# Altium schematic symbol library SparkFun-Boards.SCHLIB: 91 symbols (part 2 of 3)
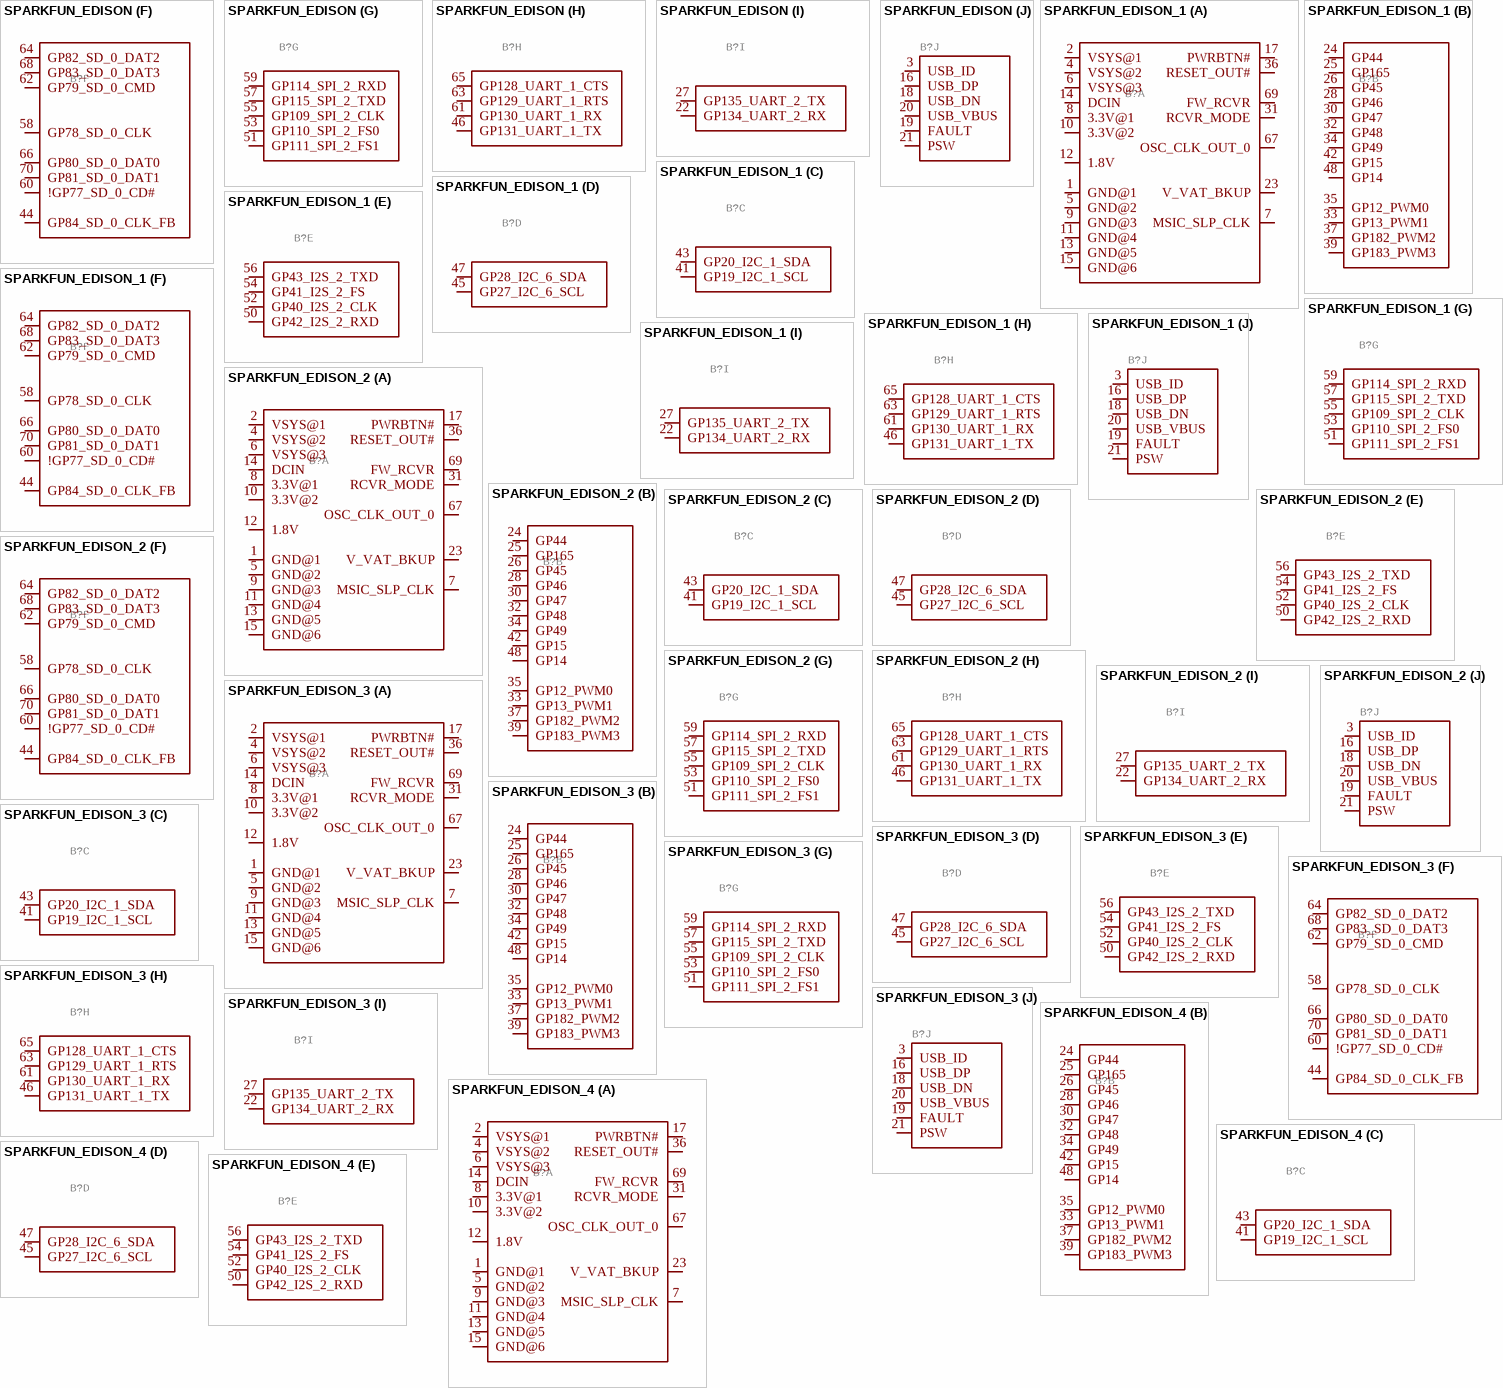
[diagram p13: symbols SPARKFUN_EDISON to SPARKFUN_EDISON_4]

## SPARKFUN_EDISON_1
designator B?, comment SparkFun Edison     The IntelÂ® Edison is an ultra small computing platform that will change the way you look at embedded electronics. Each Edison packs a huge amount of tech goodies into a tiny package while still providing the same robust strength of your go-to single board computer. Powered by the IntelÂ® Atomâ„¢ SoC dual-core CPU and including an integrated WiFi, Bluetooth LE, and a 70-pin connector to attach a veritable slew of shield-like â€œBlocksâ€ which can be stacked on top of each other.   This device includes footprints for the Edison module itself, as well as the basic board outline used for our Edison blocks.   SparkFun Products: Intel Edison  SparkFun Console Block  SparkFun GPIO Block  SparkFun Battery Block  SparkFun Base Block  SparkFun 9DOF Block  SparkFun OLED Block  SparkFun Dual H-Bridge Block  SparkFun microSD Block  SparkFun ADC Block  SparkFun I2C Block  SparkFun Arduino Block  SparkFun Power Block  SparkFun PWM Block  SparkFun Raspberry Pi Block  SparkFun UART Block  (value not drawn)
GateName_1: _BASIC; SymbolName_1: EDISON_CONNECTOR_BASE; GateName_2: _GPIO; SymbolName_2: EDISON_CONNECTOR_GPIO; GateName_3: _I2C_1; SymbolName_3: EDISON_CONNECTOR_I2C_1; GateName_4: _I2C_6; SymbolName_4: EDISON_CONNECTOR_I2C_6; GateName_5: _I2S; SymbolName_5: EDISON_CONNECTOR_I2S_2; GateName_6: _SD; SymbolName_6: EDISON_CONNECTOR_SD; GateName_7: _SPI; SymbolName_7: EDISON_CONNECTOR_SPI_2; GateName_8: _UART_1; SymbolName_8: EDISON_CONNECTOR_UART_1; GateName_9: _UART_2; SymbolName_9: EDISON_CONNECTOR_UART_2; GateName_10: _USB; SymbolName_10: EDISON_CONNECTOR_USB; DeviceSetName: SPARKFUN_EDISON; LibraryName: SparkFun-Boards; Package: SPARKFUN_EDISON_DAUGHTER
footprint SPARKFUN_EDISON_DAUGHTER
part A pins: 1 GND@1 (power), 2 VSYS@1 (power), 4 VSYS@2 (power), 5 GND@2 (power), 6 VSYS@3 (power), 7 MSIC_SLP_CLK (io), 8 3.3V@1 (power), 9 GND@3 (power), 10 3.3V@2 (power), 11 GND@4 (power), 12 1.8V (power), 13 GND@5 (power), 14 DCIN (power), 15 GND@6 (power), 17 PWRBTN# (io), 23 V_VAT_BKUP (power), 31 RCVR_MODE (io), 36 RESET_OUT# (io), 67 OSC_CLK_OUT_0 (io), 69 FW_RCVR (io)
part B pins: 24 GP44 (io), 25 GP165 (io), 26 GP45 (io), 28 GP46 (io), 30 GP47 (io), 32 GP48 (io), 33 GP13_PWM1 (io), 34 GP49 (io), 35 GP12_PWM0 (io), 37 GP182_PWM2 (io), 39 GP183_PWM3 (io), 42 GP15 (io), 48 GP14 (io)
part C pins: 41 GP19_I2C_1_SCL (io), 43 GP20_I2C_1_SDA (io)
part D pins: 45 GP27_I2C_6_SCL (io), 47 GP28_I2C_6_SDA (io)
part E pins: 50 GP42_I2S_2_RXD (io), 52 GP40_I2S_2_CLK (io), 54 GP41_I2S_2_FS (io), 56 GP43_I2S_2_TXD (io)
part F pins: 44 GP84_SD_0_CLK_FB (io), 58 GP78_SD_0_CLK (io), 60 !GP77_SD_0_CD# (io), 62 GP79_SD_0_CMD (io), 64 GP82_SD_0_DAT2 (io), 66 GP80_SD_0_DAT0 (io), 68 GP83_SD_0_DAT3 (io), 70 GP81_SD_0_DAT1 (io)
part G pins: 51 GP111_SPI_2_FS1 (io), 53 GP110_SPI_2_FS0 (io), 55 GP109_SPI_2_CLK (io), 57 GP115_SPI_2_TXD (io), 59 GP114_SPI_2_RXD (io)
part H pins: 46 GP131_UART_1_TX (io), 61 GP130_UART_1_RX (io), 63 GP129_UART_1_RTS (io), 65 GP128_UART_1_CTS (io)
part I pins: 22 GP134_UART_2_RX (io), 27 GP135_UART_2_TX (io)
part J pins: 3 USB_ID (io), 16 USB_DP (io), 18 USB_DN (io), 19 FAULT (io), 20 USB_VBUS (io), 21 PSW (io)

## SPARKFUN_EDISON_2
designator B?, comment SparkFun Edison     The IntelÂ® Edison is an ultra small computing platform that will change the way you look at embedded electronics. Each Edison packs a huge amount of tech goodies into a tiny package while still providing the same robust strength of your go-to single board computer. Powered by the IntelÂ® Atomâ„¢ SoC dual-core CPU and including an integrated WiFi, Bluetooth LE, and a 70-pin connector to attach a veritable slew of shield-like â€œBlocksâ€ which can be stacked on top of each other.   This device includes footprints for the Edison module itself, as well as the basic board outline used for our Edison blocks.   SparkFun Products: Intel Edison  SparkFun Console Block  SparkFun GPIO Block  SparkFun Battery Block  SparkFun Base Block  SparkFun 9DOF Block  SparkFun OLED Block  SparkFun Dual H-Bridge Block  SparkFun microSD Block  SparkFun ADC Block  SparkFun I2C Block  SparkFun Arduino Block  SparkFun Power Block  SparkFun PWM Block  SparkFun Raspberry Pi Block  SparkFun UART Block  (value not drawn)
GateName_1: _BASIC; SymbolName_1: EDISON_CONNECTOR_BASE; GateName_2: _GPIO; SymbolName_2: EDISON_CONNECTOR_GPIO; GateName_3: _I2C_1; SymbolName_3: EDISON_CONNECTOR_I2C_1; GateName_4: _I2C_6; SymbolName_4: EDISON_CONNECTOR_I2C_6; GateName_5: _I2S; SymbolName_5: EDISON_CONNECTOR_I2S_2; GateName_6: _SD; SymbolName_6: EDISON_CONNECTOR_SD; GateName_7: _SPI; SymbolName_7: EDISON_CONNECTOR_SPI_2; GateName_8: _UART_1; SymbolName_8: EDISON_CONNECTOR_UART_1; GateName_9: _UART_2; SymbolName_9: EDISON_CONNECTOR_UART_2; GateName_10: _USB; SymbolName_10: EDISON_CONNECTOR_USB; DeviceSetName: SPARKFUN_EDISON; LibraryName: SparkFun-Boards; Package: SPARKFUN_EDISON_DAUGHTER
footprint SPARKFUN_EDISON_DAUGHTER
part A pins: 1 GND@1 (power), 2 VSYS@1 (power), 4 VSYS@2 (power), 5 GND@2 (power), 6 VSYS@3 (power), 7 MSIC_SLP_CLK (io), 8 3.3V@1 (power), 9 GND@3 (power), 10 3.3V@2 (power), 11 GND@4 (power), 12 1.8V (power), 13 GND@5 (power), 14 DCIN (power), 15 GND@6 (power), 17 PWRBTN# (io), 23 V_VAT_BKUP (power), 31 RCVR_MODE (io), 36 RESET_OUT# (io), 67 OSC_CLK_OUT_0 (io), 69 FW_RCVR (io)
part B pins: 24 GP44 (io), 25 GP165 (io), 26 GP45 (io), 28 GP46 (io), 30 GP47 (io), 32 GP48 (io), 33 GP13_PWM1 (io), 34 GP49 (io), 35 GP12_PWM0 (io), 37 GP182_PWM2 (io), 39 GP183_PWM3 (io), 42 GP15 (io), 48 GP14 (io)
part C pins: 41 GP19_I2C_1_SCL (io), 43 GP20_I2C_1_SDA (io)
part D pins: 45 GP27_I2C_6_SCL (io), 47 GP28_I2C_6_SDA (io)
part E pins: 50 GP42_I2S_2_RXD (io), 52 GP40_I2S_2_CLK (io), 54 GP41_I2S_2_FS (io), 56 GP43_I2S_2_TXD (io)
part F pins: 44 GP84_SD_0_CLK_FB (io), 58 GP78_SD_0_CLK (io), 60 !GP77_SD_0_CD# (io), 62 GP79_SD_0_CMD (io), 64 GP82_SD_0_DAT2 (io), 66 GP80_SD_0_DAT0 (io), 68 GP83_SD_0_DAT3 (io), 70 GP81_SD_0_DAT1 (io)
part G pins: 51 GP111_SPI_2_FS1 (io), 53 GP110_SPI_2_FS0 (io), 55 GP109_SPI_2_CLK (io), 57 GP115_SPI_2_TXD (io), 59 GP114_SPI_2_RXD (io)
part H pins: 46 GP131_UART_1_TX (io), 61 GP130_UART_1_RX (io), 63 GP129_UART_1_RTS (io), 65 GP128_UART_1_CTS (io)
part I pins: 22 GP134_UART_2_RX (io), 27 GP135_UART_2_TX (io)
part J pins: 3 USB_ID (io), 16 USB_DP (io), 18 USB_DN (io), 19 FAULT (io), 20 USB_VBUS (io), 21 PSW (io)

## SPARKFUN_EDISON_3
designator B?, comment SparkFun Edison     The IntelÂ® Edison is an ultra small computing platform that will change the way you look at embedded electronics. Each Edison packs a huge amount of tech goodies into a tiny package while still providing the same robust strength of your go-to single board computer. Powered by the IntelÂ® Atomâ„¢ SoC dual-core CPU and including an integrated WiFi, Bluetooth LE, and a 70-pin connector to attach a veritable slew of shield-like â€œBlocksâ€ which can be stacked on top of each other.   This device includes footprints for the Edison module itself, as well as the basic board outline used for our Edison blocks.   SparkFun Products: Intel Edison  SparkFun Console Block  SparkFun GPIO Block  SparkFun Battery Block  SparkFun Base Block  SparkFun 9DOF Block  SparkFun OLED Block  SparkFun Dual H-Bridge Block  SparkFun microSD Block  SparkFun ADC Block  SparkFun I2C Block  SparkFun Arduino Block  SparkFun Power Block  SparkFun PWM Block  SparkFun Raspberry Pi Block  SparkFun UART Block  (value not drawn)
GateName_1: _BASIC; SymbolName_1: EDISON_CONNECTOR_BASE; GateName_2: _GPIO; SymbolName_2: EDISON_CONNECTOR_GPIO; GateName_3: _I2C_1; SymbolName_3: EDISON_CONNECTOR_I2C_1; GateName_4: _I2C_6; SymbolName_4: EDISON_CONNECTOR_I2C_6; GateName_5: _I2S; SymbolName_5: EDISON_CONNECTOR_I2S_2; GateName_6: _SD; SymbolName_6: EDISON_CONNECTOR_SD; GateName_7: _SPI; SymbolName_7: EDISON_CONNECTOR_SPI_2; GateName_8: _UART_1; SymbolName_8: EDISON_CONNECTOR_UART_1; GateName_9: _UART_2; SymbolName_9: EDISON_CONNECTOR_UART_2; GateName_10: _USB; SymbolName_10: EDISON_CONNECTOR_USB; DeviceSetName: SPARKFUN_EDISON; LibraryName: SparkFun-Boards; Package: SPARKFUN_EDISON_DAUGHTER
footprint SPARKFUN_EDISON_DAUGHTER
part A pins: 1 GND@1 (power), 2 VSYS@1 (power), 4 VSYS@2 (power), 5 GND@2 (power), 6 VSYS@3 (power), 7 MSIC_SLP_CLK (io), 8 3.3V@1 (power), 9 GND@3 (power), 10 3.3V@2 (power), 11 GND@4 (power), 12 1.8V (power), 13 GND@5 (power), 14 DCIN (power), 15 GND@6 (power), 17 PWRBTN# (io), 23 V_VAT_BKUP (power), 31 RCVR_MODE (io), 36 RESET_OUT# (io), 67 OSC_CLK_OUT_0 (io), 69 FW_RCVR (io)
part B pins: 24 GP44 (io), 25 GP165 (io), 26 GP45 (io), 28 GP46 (io), 30 GP47 (io), 32 GP48 (io), 33 GP13_PWM1 (io), 34 GP49 (io), 35 GP12_PWM0 (io), 37 GP182_PWM2 (io), 39 GP183_PWM3 (io), 42 GP15 (io), 48 GP14 (io)
part C pins: 41 GP19_I2C_1_SCL (io), 43 GP20_I2C_1_SDA (io)
part D pins: 45 GP27_I2C_6_SCL (io), 47 GP28_I2C_6_SDA (io)
part E pins: 50 GP42_I2S_2_RXD (io), 52 GP40_I2S_2_CLK (io), 54 GP41_I2S_2_FS (io), 56 GP43_I2S_2_TXD (io)
part F pins: 44 GP84_SD_0_CLK_FB (io), 58 GP78_SD_0_CLK (io), 60 !GP77_SD_0_CD# (io), 62 GP79_SD_0_CMD (io), 64 GP82_SD_0_DAT2 (io), 66 GP80_SD_0_DAT0 (io), 68 GP83_SD_0_DAT3 (io), 70 GP81_SD_0_DAT1 (io)
part G pins: 51 GP111_SPI_2_FS1 (io), 53 GP110_SPI_2_FS0 (io), 55 GP109_SPI_2_CLK (io), 57 GP115_SPI_2_TXD (io), 59 GP114_SPI_2_RXD (io)
part H pins: 46 GP131_UART_1_TX (io), 61 GP130_UART_1_RX (io), 63 GP129_UART_1_RTS (io), 65 GP128_UART_1_CTS (io)
part I pins: 22 GP134_UART_2_RX (io), 27 GP135_UART_2_TX (io)
part J pins: 3 USB_ID (io), 16 USB_DP (io), 18 USB_DN (io), 19 FAULT (io), 20 USB_VBUS (io), 21 PSW (io)

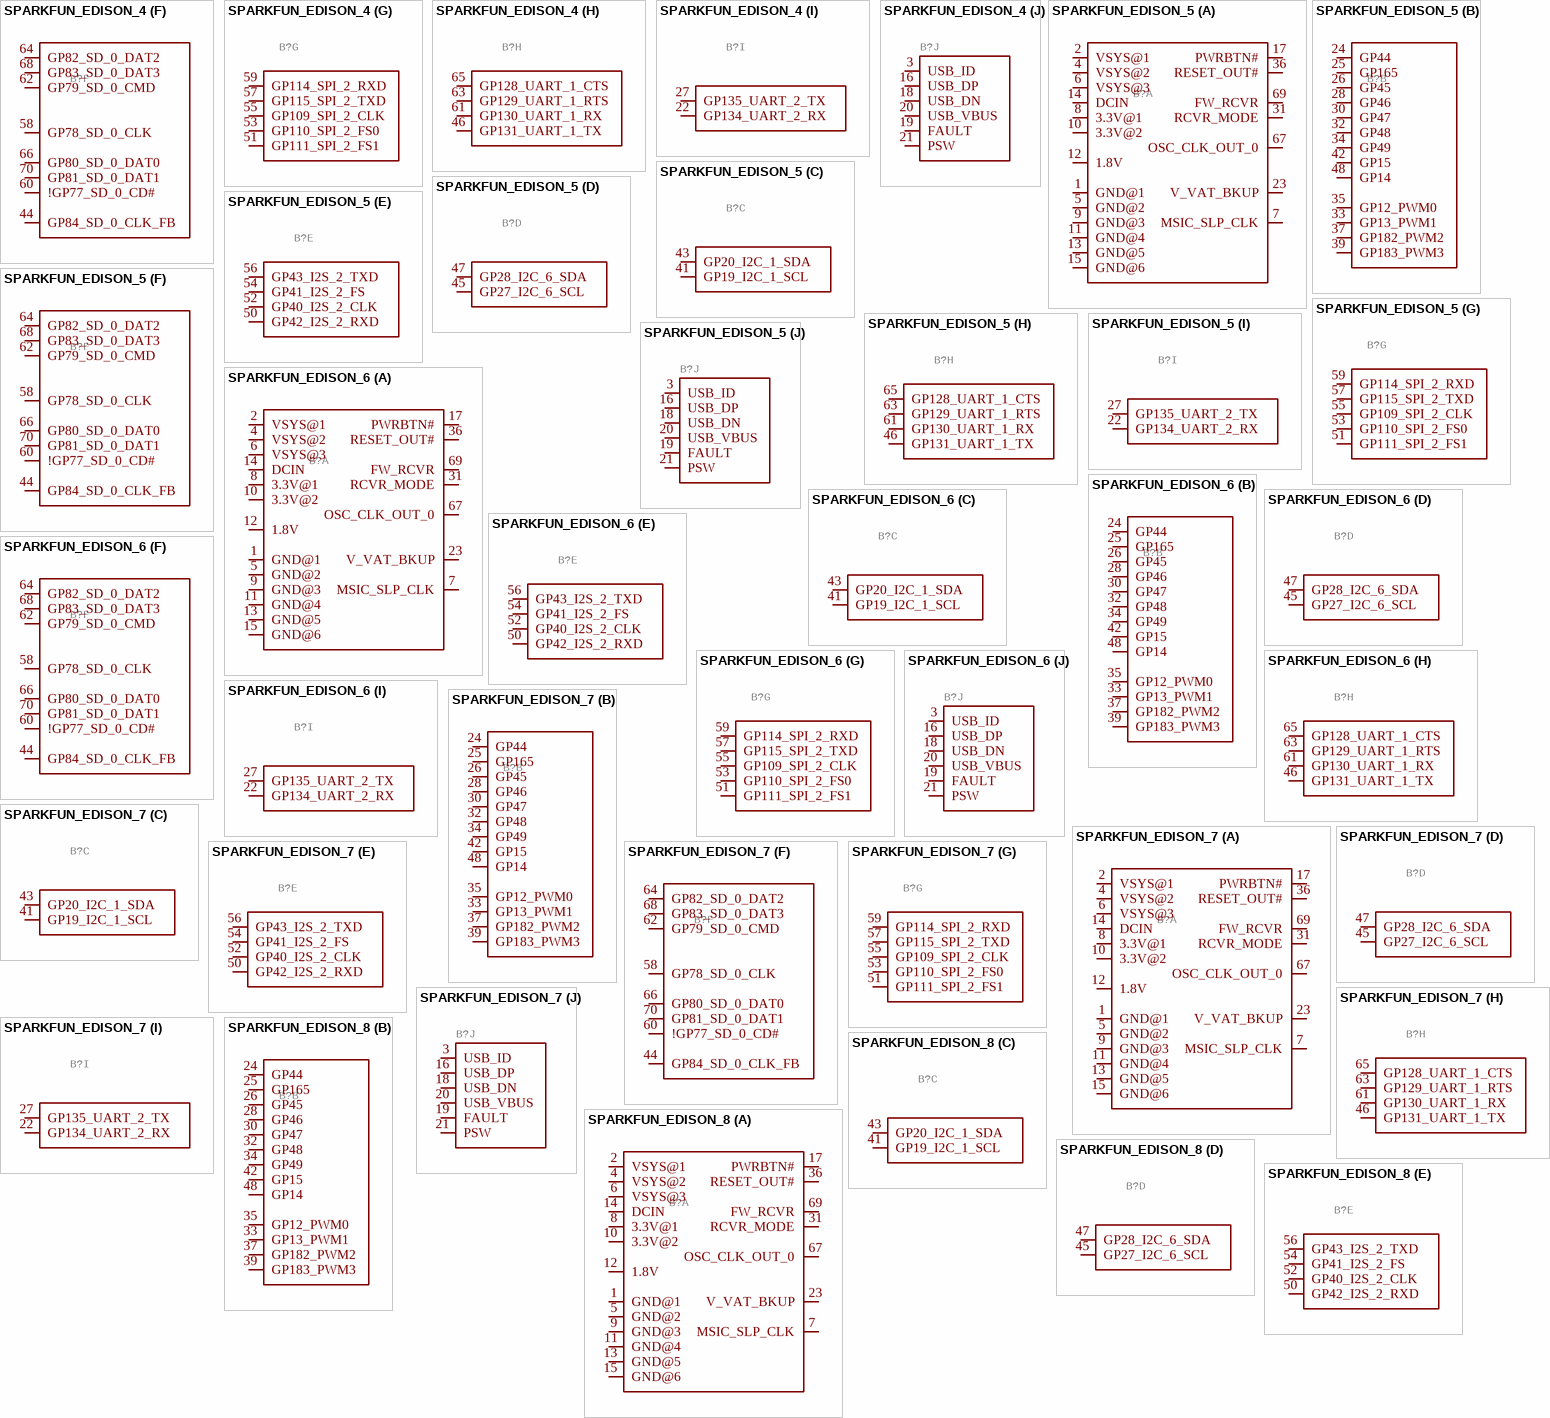
[diagram p7: symbols SPARKFUN_EDISON_4 to SPARKFUN_EDISON_8]

## SPARKFUN_EDISON_4
designator B?, comment SparkFun Edison     The IntelÂ® Edison is an ultra small computing platform that will change the way you look at embedded electronics. Each Edison packs a huge amount of tech goodies into a tiny package while still providing the same robust strength of your go-to single board computer. Powered by the IntelÂ® Atomâ„¢ SoC dual-core CPU and including an integrated WiFi, Bluetooth LE, and a 70-pin connector to attach a veritable slew of shield-like â€œBlocksâ€ which can be stacked on top of each other.   This device includes footprints for the Edison module itself, as well as the basic board outline used for our Edison blocks.   SparkFun Products: Intel Edison  SparkFun Console Block  SparkFun GPIO Block  SparkFun Battery Block  SparkFun Base Block  SparkFun 9DOF Block  SparkFun OLED Block  SparkFun Dual H-Bridge Block  SparkFun microSD Block  SparkFun ADC Block  SparkFun I2C Block  SparkFun Arduino Block  SparkFun Power Block  SparkFun PWM Block  SparkFun Raspberry Pi Block  SparkFun UART Block  (value not drawn)
GateName_1: _BASIC; SymbolName_1: EDISON_CONNECTOR_BASE; GateName_2: _GPIO; SymbolName_2: EDISON_CONNECTOR_GPIO; GateName_3: _I2C_1; SymbolName_3: EDISON_CONNECTOR_I2C_1; GateName_4: _I2C_6; SymbolName_4: EDISON_CONNECTOR_I2C_6; GateName_5: _I2S; SymbolName_5: EDISON_CONNECTOR_I2S_2; GateName_6: _SD; SymbolName_6: EDISON_CONNECTOR_SD; GateName_7: _SPI; SymbolName_7: EDISON_CONNECTOR_SPI_2; GateName_8: _UART_1; SymbolName_8: EDISON_CONNECTOR_UART_1; GateName_9: _UART_2; SymbolName_9: EDISON_CONNECTOR_UART_2; GateName_10: _USB; SymbolName_10: EDISON_CONNECTOR_USB; DeviceSetName: SPARKFUN_EDISON; LibraryName: SparkFun-Boards; Package: SPARKFUN_EDISON_DAUGHTER
footprint SPARKFUN_EDISON_DAUGHTER
part A pins: 1 GND@1 (power), 2 VSYS@1 (power), 4 VSYS@2 (power), 5 GND@2 (power), 6 VSYS@3 (power), 7 MSIC_SLP_CLK (io), 8 3.3V@1 (power), 9 GND@3 (power), 10 3.3V@2 (power), 11 GND@4 (power), 12 1.8V (power), 13 GND@5 (power), 14 DCIN (power), 15 GND@6 (power), 17 PWRBTN# (io), 23 V_VAT_BKUP (power), 31 RCVR_MODE (io), 36 RESET_OUT# (io), 67 OSC_CLK_OUT_0 (io), 69 FW_RCVR (io)
part B pins: 24 GP44 (io), 25 GP165 (io), 26 GP45 (io), 28 GP46 (io), 30 GP47 (io), 32 GP48 (io), 33 GP13_PWM1 (io), 34 GP49 (io), 35 GP12_PWM0 (io), 37 GP182_PWM2 (io), 39 GP183_PWM3 (io), 42 GP15 (io), 48 GP14 (io)
part C pins: 41 GP19_I2C_1_SCL (io), 43 GP20_I2C_1_SDA (io)
part D pins: 45 GP27_I2C_6_SCL (io), 47 GP28_I2C_6_SDA (io)
part E pins: 50 GP42_I2S_2_RXD (io), 52 GP40_I2S_2_CLK (io), 54 GP41_I2S_2_FS (io), 56 GP43_I2S_2_TXD (io)
part F pins: 44 GP84_SD_0_CLK_FB (io), 58 GP78_SD_0_CLK (io), 60 !GP77_SD_0_CD# (io), 62 GP79_SD_0_CMD (io), 64 GP82_SD_0_DAT2 (io), 66 GP80_SD_0_DAT0 (io), 68 GP83_SD_0_DAT3 (io), 70 GP81_SD_0_DAT1 (io)
part G pins: 51 GP111_SPI_2_FS1 (io), 53 GP110_SPI_2_FS0 (io), 55 GP109_SPI_2_CLK (io), 57 GP115_SPI_2_TXD (io), 59 GP114_SPI_2_RXD (io)
part H pins: 46 GP131_UART_1_TX (io), 61 GP130_UART_1_RX (io), 63 GP129_UART_1_RTS (io), 65 GP128_UART_1_CTS (io)
part I pins: 22 GP134_UART_2_RX (io), 27 GP135_UART_2_TX (io)
part J pins: 3 USB_ID (io), 16 USB_DP (io), 18 USB_DN (io), 19 FAULT (io), 20 USB_VBUS (io), 21 PSW (io)

## SPARKFUN_EDISON_5
designator B?, comment SparkFun Edison     The IntelÂ® Edison is an ultra small computing platform that will change the way you look at embedded electronics. Each Edison packs a huge amount of tech goodies into a tiny package while still providing the same robust strength of your go-to single board computer. Powered by the IntelÂ® Atomâ„¢ SoC dual-core CPU and including an integrated WiFi, Bluetooth LE, and a 70-pin connector to attach a veritable slew of shield-like â€œBlocksâ€ which can be stacked on top of each other.   This device includes footprints for the Edison module itself, as well as the basic board outline used for our Edison blocks.   SparkFun Products: Intel Edison  SparkFun Console Block  SparkFun GPIO Block  SparkFun Battery Block  SparkFun Base Block  SparkFun 9DOF Block  SparkFun OLED Block  SparkFun Dual H-Bridge Block  SparkFun microSD Block  SparkFun ADC Block  SparkFun I2C Block  SparkFun Arduino Block  SparkFun Power Block  SparkFun PWM Block  SparkFun Raspberry Pi Block  SparkFun UART Block  (value not drawn)
GateName_1: _BASIC; SymbolName_1: EDISON_CONNECTOR_BASE; GateName_2: _GPIO; SymbolName_2: EDISON_CONNECTOR_GPIO; GateName_3: _I2C_1; SymbolName_3: EDISON_CONNECTOR_I2C_1; GateName_4: _I2C_6; SymbolName_4: EDISON_CONNECTOR_I2C_6; GateName_5: _I2S; SymbolName_5: EDISON_CONNECTOR_I2S_2; GateName_6: _SD; SymbolName_6: EDISON_CONNECTOR_SD; GateName_7: _SPI; SymbolName_7: EDISON_CONNECTOR_SPI_2; GateName_8: _UART_1; SymbolName_8: EDISON_CONNECTOR_UART_1; GateName_9: _UART_2; SymbolName_9: EDISON_CONNECTOR_UART_2; GateName_10: _USB; SymbolName_10: EDISON_CONNECTOR_USB; DeviceSetName: SPARKFUN_EDISON; LibraryName: SparkFun-Boards; Package: SPARKFUN_EDISON_DAUGHTER
footprint SPARKFUN_EDISON_DAUGHTER
part A pins: 1 GND@1 (power), 2 VSYS@1 (power), 4 VSYS@2 (power), 5 GND@2 (power), 6 VSYS@3 (power), 7 MSIC_SLP_CLK (io), 8 3.3V@1 (power), 9 GND@3 (power), 10 3.3V@2 (power), 11 GND@4 (power), 12 1.8V (power), 13 GND@5 (power), 14 DCIN (power), 15 GND@6 (power), 17 PWRBTN# (io), 23 V_VAT_BKUP (power), 31 RCVR_MODE (io), 36 RESET_OUT# (io), 67 OSC_CLK_OUT_0 (io), 69 FW_RCVR (io)
part B pins: 24 GP44 (io), 25 GP165 (io), 26 GP45 (io), 28 GP46 (io), 30 GP47 (io), 32 GP48 (io), 33 GP13_PWM1 (io), 34 GP49 (io), 35 GP12_PWM0 (io), 37 GP182_PWM2 (io), 39 GP183_PWM3 (io), 42 GP15 (io), 48 GP14 (io)
part C pins: 41 GP19_I2C_1_SCL (io), 43 GP20_I2C_1_SDA (io)
part D pins: 45 GP27_I2C_6_SCL (io), 47 GP28_I2C_6_SDA (io)
part E pins: 50 GP42_I2S_2_RXD (io), 52 GP40_I2S_2_CLK (io), 54 GP41_I2S_2_FS (io), 56 GP43_I2S_2_TXD (io)
part F pins: 44 GP84_SD_0_CLK_FB (io), 58 GP78_SD_0_CLK (io), 60 !GP77_SD_0_CD# (io), 62 GP79_SD_0_CMD (io), 64 GP82_SD_0_DAT2 (io), 66 GP80_SD_0_DAT0 (io), 68 GP83_SD_0_DAT3 (io), 70 GP81_SD_0_DAT1 (io)
part G pins: 51 GP111_SPI_2_FS1 (io), 53 GP110_SPI_2_FS0 (io), 55 GP109_SPI_2_CLK (io), 57 GP115_SPI_2_TXD (io), 59 GP114_SPI_2_RXD (io)
part H pins: 46 GP131_UART_1_TX (io), 61 GP130_UART_1_RX (io), 63 GP129_UART_1_RTS (io), 65 GP128_UART_1_CTS (io)
part I pins: 22 GP134_UART_2_RX (io), 27 GP135_UART_2_TX (io)
part J pins: 3 USB_ID (io), 16 USB_DP (io), 18 USB_DN (io), 19 FAULT (io), 20 USB_VBUS (io), 21 PSW (io)

## SPARKFUN_EDISON_6
designator B?, comment SparkFun Edison     The IntelÂ® Edison is an ultra small computing platform that will change the way you look at embedded electronics. Each Edison packs a huge amount of tech goodies into a tiny package while still providing the same robust strength of your go-to single board computer. Powered by the IntelÂ® Atomâ„¢ SoC dual-core CPU and including an integrated WiFi, Bluetooth LE, and a 70-pin connector to attach a veritable slew of shield-like â€œBlocksâ€ which can be stacked on top of each other.   This device includes footprints for the Edison module itself, as well as the basic board outline used for our Edison blocks.   SparkFun Products: Intel Edison  SparkFun Console Block  SparkFun GPIO Block  SparkFun Battery Block  SparkFun Base Block  SparkFun 9DOF Block  SparkFun OLED Block  SparkFun Dual H-Bridge Block  SparkFun microSD Block  SparkFun ADC Block  SparkFun I2C Block  SparkFun Arduino Block  SparkFun Power Block  SparkFun PWM Block  SparkFun Raspberry Pi Block  SparkFun UART Block  (value not drawn)
GateName_1: _BASIC; SymbolName_1: EDISON_CONNECTOR_BASE; GateName_2: _GPIO; SymbolName_2: EDISON_CONNECTOR_GPIO; GateName_3: _I2C_1; SymbolName_3: EDISON_CONNECTOR_I2C_1; GateName_4: _I2C_6; SymbolName_4: EDISON_CONNECTOR_I2C_6; GateName_5: _I2S; SymbolName_5: EDISON_CONNECTOR_I2S_2; GateName_6: _SD; SymbolName_6: EDISON_CONNECTOR_SD; GateName_7: _SPI; SymbolName_7: EDISON_CONNECTOR_SPI_2; GateName_8: _UART_1; SymbolName_8: EDISON_CONNECTOR_UART_1; GateName_9: _UART_2; SymbolName_9: EDISON_CONNECTOR_UART_2; GateName_10: _USB; SymbolName_10: EDISON_CONNECTOR_USB; DeviceSetName: SPARKFUN_EDISON; LibraryName: SparkFun-Boards; Package: SPARKFUN_EDISON_DAUGHTER
footprint SPARKFUN_EDISON_DAUGHTER
part A pins: 1 GND@1 (power), 2 VSYS@1 (power), 4 VSYS@2 (power), 5 GND@2 (power), 6 VSYS@3 (power), 7 MSIC_SLP_CLK (io), 8 3.3V@1 (power), 9 GND@3 (power), 10 3.3V@2 (power), 11 GND@4 (power), 12 1.8V (power), 13 GND@5 (power), 14 DCIN (power), 15 GND@6 (power), 17 PWRBTN# (io), 23 V_VAT_BKUP (power), 31 RCVR_MODE (io), 36 RESET_OUT# (io), 67 OSC_CLK_OUT_0 (io), 69 FW_RCVR (io)
part B pins: 24 GP44 (io), 25 GP165 (io), 26 GP45 (io), 28 GP46 (io), 30 GP47 (io), 32 GP48 (io), 33 GP13_PWM1 (io), 34 GP49 (io), 35 GP12_PWM0 (io), 37 GP182_PWM2 (io), 39 GP183_PWM3 (io), 42 GP15 (io), 48 GP14 (io)
part C pins: 41 GP19_I2C_1_SCL (io), 43 GP20_I2C_1_SDA (io)
part D pins: 45 GP27_I2C_6_SCL (io), 47 GP28_I2C_6_SDA (io)
part E pins: 50 GP42_I2S_2_RXD (io), 52 GP40_I2S_2_CLK (io), 54 GP41_I2S_2_FS (io), 56 GP43_I2S_2_TXD (io)
part F pins: 44 GP84_SD_0_CLK_FB (io), 58 GP78_SD_0_CLK (io), 60 !GP77_SD_0_CD# (io), 62 GP79_SD_0_CMD (io), 64 GP82_SD_0_DAT2 (io), 66 GP80_SD_0_DAT0 (io), 68 GP83_SD_0_DAT3 (io), 70 GP81_SD_0_DAT1 (io)
part G pins: 51 GP111_SPI_2_FS1 (io), 53 GP110_SPI_2_FS0 (io), 55 GP109_SPI_2_CLK (io), 57 GP115_SPI_2_TXD (io), 59 GP114_SPI_2_RXD (io)
part H pins: 46 GP131_UART_1_TX (io), 61 GP130_UART_1_RX (io), 63 GP129_UART_1_RTS (io), 65 GP128_UART_1_CTS (io)
part I pins: 22 GP134_UART_2_RX (io), 27 GP135_UART_2_TX (io)
part J pins: 3 USB_ID (io), 16 USB_DP (io), 18 USB_DN (io), 19 FAULT (io), 20 USB_VBUS (io), 21 PSW (io)

## SPARKFUN_EDISON_7
designator B?, comment SparkFun Edison     The IntelÂ® Edison is an ultra small computing platform that will change the way you look at embedded electronics. Each Edison packs a huge amount of tech goodies into a tiny package while still providing the same robust strength of your go-to single board computer. Powered by the IntelÂ® Atomâ„¢ SoC dual-core CPU and including an integrated WiFi, Bluetooth LE, and a 70-pin connector to attach a veritable slew of shield-like â€œBlocksâ€ which can be stacked on top of each other.   This device includes footprints for the Edison module itself, as well as the basic board outline used for our Edison blocks.   SparkFun Products: Intel Edison  SparkFun Console Block  SparkFun GPIO Block  SparkFun Battery Block  SparkFun Base Block  SparkFun 9DOF Block  SparkFun OLED Block  SparkFun Dual H-Bridge Block  SparkFun microSD Block  SparkFun ADC Block  SparkFun I2C Block  SparkFun Arduino Block  SparkFun Power Block  SparkFun PWM Block  SparkFun Raspberry Pi Block  SparkFun UART Block  (value not drawn)
GateName_1: _BASIC; SymbolName_1: EDISON_CONNECTOR_BASE; GateName_2: _GPIO; SymbolName_2: EDISON_CONNECTOR_GPIO; GateName_3: _I2C_1; SymbolName_3: EDISON_CONNECTOR_I2C_1; GateName_4: _I2C_6; SymbolName_4: EDISON_CONNECTOR_I2C_6; GateName_5: _I2S; SymbolName_5: EDISON_CONNECTOR_I2S_2; GateName_6: _SD; SymbolName_6: EDISON_CONNECTOR_SD; GateName_7: _SPI; SymbolName_7: EDISON_CONNECTOR_SPI_2; GateName_8: _UART_1; SymbolName_8: EDISON_CONNECTOR_UART_1; GateName_9: _UART_2; SymbolName_9: EDISON_CONNECTOR_UART_2; GateName_10: _USB; SymbolName_10: EDISON_CONNECTOR_USB; DeviceSetName: SPARKFUN_EDISON; LibraryName: SparkFun-Boards; Package: SPARKFUN_EDISON_DAUGHTER
footprint SPARKFUN_EDISON_DAUGHTER
part A pins: 1 GND@1 (power), 2 VSYS@1 (power), 4 VSYS@2 (power), 5 GND@2 (power), 6 VSYS@3 (power), 7 MSIC_SLP_CLK (io), 8 3.3V@1 (power), 9 GND@3 (power), 10 3.3V@2 (power), 11 GND@4 (power), 12 1.8V (power), 13 GND@5 (power), 14 DCIN (power), 15 GND@6 (power), 17 PWRBTN# (io), 23 V_VAT_BKUP (power), 31 RCVR_MODE (io), 36 RESET_OUT# (io), 67 OSC_CLK_OUT_0 (io), 69 FW_RCVR (io)
part B pins: 24 GP44 (io), 25 GP165 (io), 26 GP45 (io), 28 GP46 (io), 30 GP47 (io), 32 GP48 (io), 33 GP13_PWM1 (io), 34 GP49 (io), 35 GP12_PWM0 (io), 37 GP182_PWM2 (io), 39 GP183_PWM3 (io), 42 GP15 (io), 48 GP14 (io)
part C pins: 41 GP19_I2C_1_SCL (io), 43 GP20_I2C_1_SDA (io)
part D pins: 45 GP27_I2C_6_SCL (io), 47 GP28_I2C_6_SDA (io)
part E pins: 50 GP42_I2S_2_RXD (io), 52 GP40_I2S_2_CLK (io), 54 GP41_I2S_2_FS (io), 56 GP43_I2S_2_TXD (io)
part F pins: 44 GP84_SD_0_CLK_FB (io), 58 GP78_SD_0_CLK (io), 60 !GP77_SD_0_CD# (io), 62 GP79_SD_0_CMD (io), 64 GP82_SD_0_DAT2 (io), 66 GP80_SD_0_DAT0 (io), 68 GP83_SD_0_DAT3 (io), 70 GP81_SD_0_DAT1 (io)
part G pins: 51 GP111_SPI_2_FS1 (io), 53 GP110_SPI_2_FS0 (io), 55 GP109_SPI_2_CLK (io), 57 GP115_SPI_2_TXD (io), 59 GP114_SPI_2_RXD (io)
part H pins: 46 GP131_UART_1_TX (io), 61 GP130_UART_1_RX (io), 63 GP129_UART_1_RTS (io), 65 GP128_UART_1_CTS (io)
part I pins: 22 GP134_UART_2_RX (io), 27 GP135_UART_2_TX (io)
part J pins: 3 USB_ID (io), 16 USB_DP (io), 18 USB_DN (io), 19 FAULT (io), 20 USB_VBUS (io), 21 PSW (io)

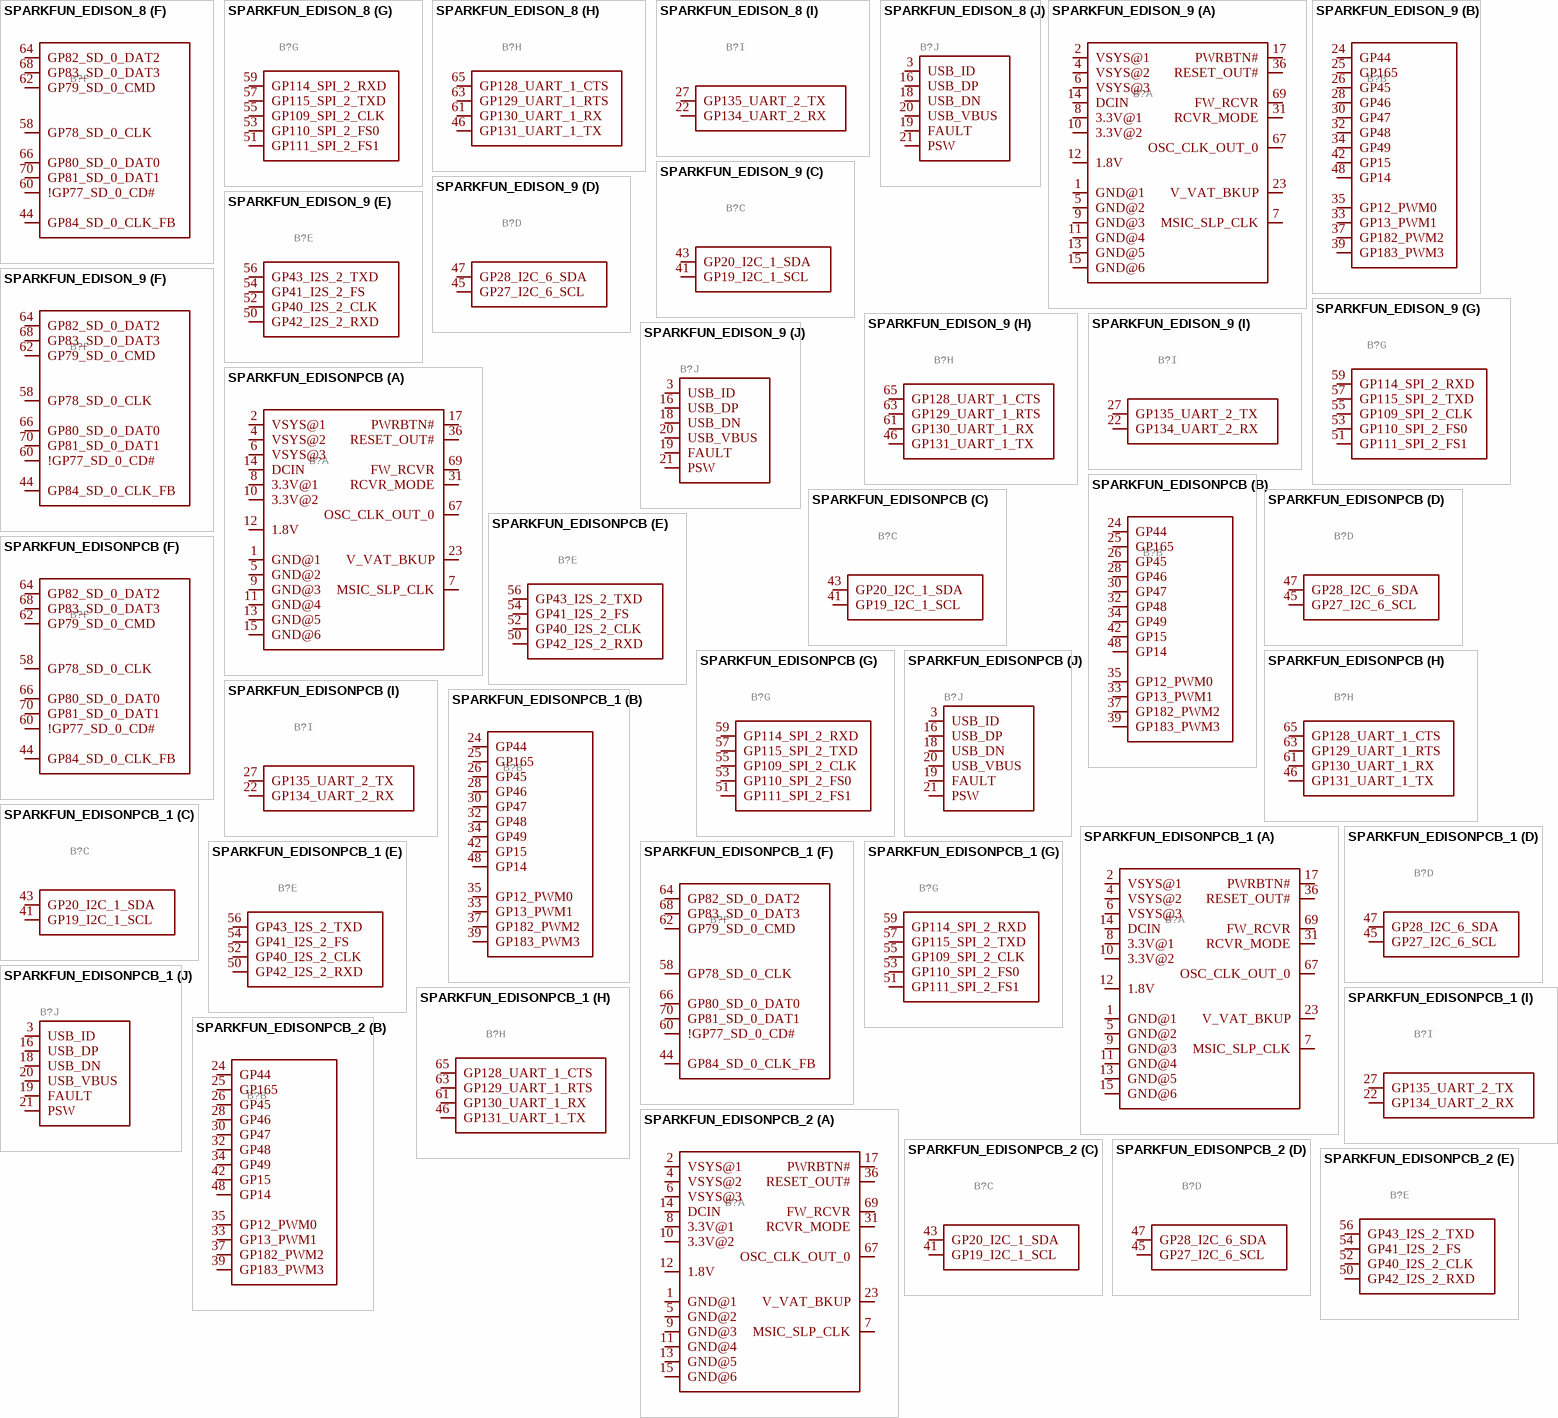
[diagram p8: symbols SPARKFUN_EDISON_8 to SPARKFUN_EDISONPCB_2]

## SPARKFUN_EDISON_8
designator B?, comment SparkFun Edison     The IntelÂ® Edison is an ultra small computing platform that will change the way you look at embedded electronics. Each Edison packs a huge amount of tech goodies into a tiny package while still providing the same robust strength of your go-to single board computer. Powered by the IntelÂ® Atomâ„¢ SoC dual-core CPU and including an integrated WiFi, Bluetooth LE, and a 70-pin connector to attach a veritable slew of shield-like â€œBlocksâ€ which can be stacked on top of each other.   This device includes footprints for the Edison module itself, as well as the basic board outline used for our Edison blocks.   SparkFun Products: Intel Edison  SparkFun Console Block  SparkFun GPIO Block  SparkFun Battery Block  SparkFun Base Block  SparkFun 9DOF Block  SparkFun OLED Block  SparkFun Dual H-Bridge Block  SparkFun microSD Block  SparkFun ADC Block  SparkFun I2C Block  SparkFun Arduino Block  SparkFun Power Block  SparkFun PWM Block  SparkFun Raspberry Pi Block  SparkFun UART Block  (value not drawn)
GateName_1: _BASIC; SymbolName_1: EDISON_CONNECTOR_BASE; GateName_2: _GPIO; SymbolName_2: EDISON_CONNECTOR_GPIO; GateName_3: _I2C_1; SymbolName_3: EDISON_CONNECTOR_I2C_1; GateName_4: _I2C_6; SymbolName_4: EDISON_CONNECTOR_I2C_6; GateName_5: _I2S; SymbolName_5: EDISON_CONNECTOR_I2S_2; GateName_6: _SD; SymbolName_6: EDISON_CONNECTOR_SD; GateName_7: _SPI; SymbolName_7: EDISON_CONNECTOR_SPI_2; GateName_8: _UART_1; SymbolName_8: EDISON_CONNECTOR_UART_1; GateName_9: _UART_2; SymbolName_9: EDISON_CONNECTOR_UART_2; GateName_10: _USB; SymbolName_10: EDISON_CONNECTOR_USB; DeviceSetName: SPARKFUN_EDISON; LibraryName: SparkFun-Boards; Package: SPARKFUN_EDISON_DAUGHTER
footprint SPARKFUN_EDISON_DAUGHTER
part A pins: 1 GND@1 (power), 2 VSYS@1 (power), 4 VSYS@2 (power), 5 GND@2 (power), 6 VSYS@3 (power), 7 MSIC_SLP_CLK (io), 8 3.3V@1 (power), 9 GND@3 (power), 10 3.3V@2 (power), 11 GND@4 (power), 12 1.8V (power), 13 GND@5 (power), 14 DCIN (power), 15 GND@6 (power), 17 PWRBTN# (io), 23 V_VAT_BKUP (power), 31 RCVR_MODE (io), 36 RESET_OUT# (io), 67 OSC_CLK_OUT_0 (io), 69 FW_RCVR (io)
part B pins: 24 GP44 (io), 25 GP165 (io), 26 GP45 (io), 28 GP46 (io), 30 GP47 (io), 32 GP48 (io), 33 GP13_PWM1 (io), 34 GP49 (io), 35 GP12_PWM0 (io), 37 GP182_PWM2 (io), 39 GP183_PWM3 (io), 42 GP15 (io), 48 GP14 (io)
part C pins: 41 GP19_I2C_1_SCL (io), 43 GP20_I2C_1_SDA (io)
part D pins: 45 GP27_I2C_6_SCL (io), 47 GP28_I2C_6_SDA (io)
part E pins: 50 GP42_I2S_2_RXD (io), 52 GP40_I2S_2_CLK (io), 54 GP41_I2S_2_FS (io), 56 GP43_I2S_2_TXD (io)
part F pins: 44 GP84_SD_0_CLK_FB (io), 58 GP78_SD_0_CLK (io), 60 !GP77_SD_0_CD# (io), 62 GP79_SD_0_CMD (io), 64 GP82_SD_0_DAT2 (io), 66 GP80_SD_0_DAT0 (io), 68 GP83_SD_0_DAT3 (io), 70 GP81_SD_0_DAT1 (io)
part G pins: 51 GP111_SPI_2_FS1 (io), 53 GP110_SPI_2_FS0 (io), 55 GP109_SPI_2_CLK (io), 57 GP115_SPI_2_TXD (io), 59 GP114_SPI_2_RXD (io)
part H pins: 46 GP131_UART_1_TX (io), 61 GP130_UART_1_RX (io), 63 GP129_UART_1_RTS (io), 65 GP128_UART_1_CTS (io)
part I pins: 22 GP134_UART_2_RX (io), 27 GP135_UART_2_TX (io)
part J pins: 3 USB_ID (io), 16 USB_DP (io), 18 USB_DN (io), 19 FAULT (io), 20 USB_VBUS (io), 21 PSW (io)

## SPARKFUN_EDISON_9
designator B?, comment SparkFun Edison     The IntelÂ® Edison is an ultra small computing platform that will change the way you look at embedded electronics. Each Edison packs a huge amount of tech goodies into a tiny package while still providing the same robust strength of your go-to single board computer. Powered by the IntelÂ® Atomâ„¢ SoC dual-core CPU and including an integrated WiFi, Bluetooth LE, and a 70-pin connector to attach a veritable slew of shield-like â€œBlocksâ€ which can be stacked on top of each other.   This device includes footprints for the Edison module itself, as well as the basic board outline used for our Edison blocks.   SparkFun Products: Intel Edison  SparkFun Console Block  SparkFun GPIO Block  SparkFun Battery Block  SparkFun Base Block  SparkFun 9DOF Block  SparkFun OLED Block  SparkFun Dual H-Bridge Block  SparkFun microSD Block  SparkFun ADC Block  SparkFun I2C Block  SparkFun Arduino Block  SparkFun Power Block  SparkFun PWM Block  SparkFun Raspberry Pi Block  SparkFun UART Block  (value not drawn)
GateName_1: _BASIC; SymbolName_1: EDISON_CONNECTOR_BASE; GateName_2: _GPIO; SymbolName_2: EDISON_CONNECTOR_GPIO; GateName_3: _I2C_1; SymbolName_3: EDISON_CONNECTOR_I2C_1; GateName_4: _I2C_6; SymbolName_4: EDISON_CONNECTOR_I2C_6; GateName_5: _I2S; SymbolName_5: EDISON_CONNECTOR_I2S_2; GateName_6: _SD; SymbolName_6: EDISON_CONNECTOR_SD; GateName_7: _SPI; SymbolName_7: EDISON_CONNECTOR_SPI_2; GateName_8: _UART_1; SymbolName_8: EDISON_CONNECTOR_UART_1; GateName_9: _UART_2; SymbolName_9: EDISON_CONNECTOR_UART_2; GateName_10: _USB; SymbolName_10: EDISON_CONNECTOR_USB; DeviceSetName: SPARKFUN_EDISON; LibraryName: SparkFun-Boards; Package: SPARKFUN_EDISON_DAUGHTER
footprint SPARKFUN_EDISON_DAUGHTER
part A pins: 1 GND@1 (power), 2 VSYS@1 (power), 4 VSYS@2 (power), 5 GND@2 (power), 6 VSYS@3 (power), 7 MSIC_SLP_CLK (io), 8 3.3V@1 (power), 9 GND@3 (power), 10 3.3V@2 (power), 11 GND@4 (power), 12 1.8V (power), 13 GND@5 (power), 14 DCIN (power), 15 GND@6 (power), 17 PWRBTN# (io), 23 V_VAT_BKUP (power), 31 RCVR_MODE (io), 36 RESET_OUT# (io), 67 OSC_CLK_OUT_0 (io), 69 FW_RCVR (io)
part B pins: 24 GP44 (io), 25 GP165 (io), 26 GP45 (io), 28 GP46 (io), 30 GP47 (io), 32 GP48 (io), 33 GP13_PWM1 (io), 34 GP49 (io), 35 GP12_PWM0 (io), 37 GP182_PWM2 (io), 39 GP183_PWM3 (io), 42 GP15 (io), 48 GP14 (io)
part C pins: 41 GP19_I2C_1_SCL (io), 43 GP20_I2C_1_SDA (io)
part D pins: 45 GP27_I2C_6_SCL (io), 47 GP28_I2C_6_SDA (io)
part E pins: 50 GP42_I2S_2_RXD (io), 52 GP40_I2S_2_CLK (io), 54 GP41_I2S_2_FS (io), 56 GP43_I2S_2_TXD (io)
part F pins: 44 GP84_SD_0_CLK_FB (io), 58 GP78_SD_0_CLK (io), 60 !GP77_SD_0_CD# (io), 62 GP79_SD_0_CMD (io), 64 GP82_SD_0_DAT2 (io), 66 GP80_SD_0_DAT0 (io), 68 GP83_SD_0_DAT3 (io), 70 GP81_SD_0_DAT1 (io)
part G pins: 51 GP111_SPI_2_FS1 (io), 53 GP110_SPI_2_FS0 (io), 55 GP109_SPI_2_CLK (io), 57 GP115_SPI_2_TXD (io), 59 GP114_SPI_2_RXD (io)
part H pins: 46 GP131_UART_1_TX (io), 61 GP130_UART_1_RX (io), 63 GP129_UART_1_RTS (io), 65 GP128_UART_1_CTS (io)
part I pins: 22 GP134_UART_2_RX (io), 27 GP135_UART_2_TX (io)
part J pins: 3 USB_ID (io), 16 USB_DP (io), 18 USB_DN (io), 19 FAULT (io), 20 USB_VBUS (io), 21 PSW (io)

## SPARKFUN_EDISONPCB
designator B?, comment SparkFun Edison     The IntelÂ® Edison is an ultra small computing platform that will change the way you look at embedded electronics. Each Edison packs a huge amount of tech goodies into a tiny package while still providing the same robust strength of your go-to single board computer. Powered by the IntelÂ® Atomâ„¢ SoC dual-core CPU and including an integrated WiFi, Bluetooth LE, and a 70-pin connector to attach a veritable slew of shield-like â€œBlocksâ€ which can be stacked on top of each other.   This device includes footprints for the Edison module itself, as well as the basic board outline used for our Edison blocks.   SparkFun Products: Intel Edison  SparkFun Console Block  SparkFun GPIO Block  SparkFun Battery Block  SparkFun Base Block  SparkFun 9DOF Block  SparkFun OLED Block  SparkFun Dual H-Bridge Block  SparkFun microSD Block  SparkFun ADC Block  SparkFun I2C Block  SparkFun Arduino Block  SparkFun Power Block  SparkFun PWM Block  SparkFun Raspberry Pi Block  SparkFun UART Block  (value not drawn)
GateName_1: _BASIC; SymbolName_1: EDISON_CONNECTOR_BASE; GateName_2: _GPIO; SymbolName_2: EDISON_CONNECTOR_GPIO; GateName_3: _I2C_1; SymbolName_3: EDISON_CONNECTOR_I2C_1; GateName_4: _I2C_6; SymbolName_4: EDISON_CONNECTOR_I2C_6; GateName_5: _I2S; SymbolName_5: EDISON_CONNECTOR_I2S_2; GateName_6: _SD; SymbolName_6: EDISON_CONNECTOR_SD; GateName_7: _SPI; SymbolName_7: EDISON_CONNECTOR_SPI_2; GateName_8: _UART_1; SymbolName_8: EDISON_CONNECTOR_UART_1; GateName_9: _UART_2; SymbolName_9: EDISON_CONNECTOR_UART_2; GateName_10: _USB; SymbolName_10: EDISON_CONNECTOR_USB; DeviceName: PCB; DeviceSetName: SPARKFUN_EDISON; LibraryName: SparkFun-Boards; Package: SPARKFUN_EDISON_PCB
footprint SPARKFUN_EDISON_PCB
part A pins: 1 GND@1 (power), 2 VSYS@1 (power), 4 VSYS@2 (power), 5 GND@2 (power), 6 VSYS@3 (power), 7 MSIC_SLP_CLK (io), 8 3.3V@1 (power), 9 GND@3 (power), 10 3.3V@2 (power), 11 GND@4 (power), 12 1.8V (power), 13 GND@5 (power), 14 DCIN (power), 15 GND@6 (power), 17 PWRBTN# (io), 23 V_VAT_BKUP (power), 31 RCVR_MODE (io), 36 RESET_OUT# (io), 67 OSC_CLK_OUT_0 (io), 69 FW_RCVR (io)
part B pins: 24 GP44 (io), 25 GP165 (io), 26 GP45 (io), 28 GP46 (io), 30 GP47 (io), 32 GP48 (io), 33 GP13_PWM1 (io), 34 GP49 (io), 35 GP12_PWM0 (io), 37 GP182_PWM2 (io), 39 GP183_PWM3 (io), 42 GP15 (io), 48 GP14 (io)
part C pins: 41 GP19_I2C_1_SCL (io), 43 GP20_I2C_1_SDA (io)
part D pins: 45 GP27_I2C_6_SCL (io), 47 GP28_I2C_6_SDA (io)
part E pins: 50 GP42_I2S_2_RXD (io), 52 GP40_I2S_2_CLK (io), 54 GP41_I2S_2_FS (io), 56 GP43_I2S_2_TXD (io)
part F pins: 44 GP84_SD_0_CLK_FB (io), 58 GP78_SD_0_CLK (io), 60 !GP77_SD_0_CD# (io), 62 GP79_SD_0_CMD (io), 64 GP82_SD_0_DAT2 (io), 66 GP80_SD_0_DAT0 (io), 68 GP83_SD_0_DAT3 (io), 70 GP81_SD_0_DAT1 (io)
part G pins: 51 GP111_SPI_2_FS1 (io), 53 GP110_SPI_2_FS0 (io), 55 GP109_SPI_2_CLK (io), 57 GP115_SPI_2_TXD (io), 59 GP114_SPI_2_RXD (io)
part H pins: 46 GP131_UART_1_TX (io), 61 GP130_UART_1_RX (io), 63 GP129_UART_1_RTS (io), 65 GP128_UART_1_CTS (io)
part I pins: 22 GP134_UART_2_RX (io), 27 GP135_UART_2_TX (io)
part J pins: 3 USB_ID (io), 16 USB_DP (io), 18 USB_DN (io), 19 FAULT (io), 20 USB_VBUS (io), 21 PSW (io)

## SPARKFUN_EDISONPCB_1
designator B?, comment SparkFun Edison     The IntelÂ® Edison is an ultra small computing platform that will change the way you look at embedded electronics. Each Edison packs a huge amount of tech goodies into a tiny package while still providing the same robust strength of your go-to single board computer. Powered by the IntelÂ® Atomâ„¢ SoC dual-core CPU and including an integrated WiFi, Bluetooth LE, and a 70-pin connector to attach a veritable slew of shield-like â€œBlocksâ€ which can be stacked on top of each other.   This device includes footprints for the Edison module itself, as well as the basic board outline used for our Edison blocks.   SparkFun Products: Intel Edison  SparkFun Console Block  SparkFun GPIO Block  SparkFun Battery Block  SparkFun Base Block  SparkFun 9DOF Block  SparkFun OLED Block  SparkFun Dual H-Bridge Block  SparkFun microSD Block  SparkFun ADC Block  SparkFun I2C Block  SparkFun Arduino Block  SparkFun Power Block  SparkFun PWM Block  SparkFun Raspberry Pi Block  SparkFun UART Block  (value not drawn)
GateName_1: _BASIC; SymbolName_1: EDISON_CONNECTOR_BASE; GateName_2: _GPIO; SymbolName_2: EDISON_CONNECTOR_GPIO; GateName_3: _I2C_1; SymbolName_3: EDISON_CONNECTOR_I2C_1; GateName_4: _I2C_6; SymbolName_4: EDISON_CONNECTOR_I2C_6; GateName_5: _I2S; SymbolName_5: EDISON_CONNECTOR_I2S_2; GateName_6: _SD; SymbolName_6: EDISON_CONNECTOR_SD; GateName_7: _SPI; SymbolName_7: EDISON_CONNECTOR_SPI_2; GateName_8: _UART_1; SymbolName_8: EDISON_CONNECTOR_UART_1; GateName_9: _UART_2; SymbolName_9: EDISON_CONNECTOR_UART_2; GateName_10: _USB; SymbolName_10: EDISON_CONNECTOR_USB; DeviceName: PCB; DeviceSetName: SPARKFUN_EDISON; LibraryName: SparkFun-Boards; Package: SPARKFUN_EDISON_PCB
footprint SPARKFUN_EDISON_PCB
part A pins: 1 GND@1 (power), 2 VSYS@1 (power), 4 VSYS@2 (power), 5 GND@2 (power), 6 VSYS@3 (power), 7 MSIC_SLP_CLK (io), 8 3.3V@1 (power), 9 GND@3 (power), 10 3.3V@2 (power), 11 GND@4 (power), 12 1.8V (power), 13 GND@5 (power), 14 DCIN (power), 15 GND@6 (power), 17 PWRBTN# (io), 23 V_VAT_BKUP (power), 31 RCVR_MODE (io), 36 RESET_OUT# (io), 67 OSC_CLK_OUT_0 (io), 69 FW_RCVR (io)
part B pins: 24 GP44 (io), 25 GP165 (io), 26 GP45 (io), 28 GP46 (io), 30 GP47 (io), 32 GP48 (io), 33 GP13_PWM1 (io), 34 GP49 (io), 35 GP12_PWM0 (io), 37 GP182_PWM2 (io), 39 GP183_PWM3 (io), 42 GP15 (io), 48 GP14 (io)
part C pins: 41 GP19_I2C_1_SCL (io), 43 GP20_I2C_1_SDA (io)
part D pins: 45 GP27_I2C_6_SCL (io), 47 GP28_I2C_6_SDA (io)
part E pins: 50 GP42_I2S_2_RXD (io), 52 GP40_I2S_2_CLK (io), 54 GP41_I2S_2_FS (io), 56 GP43_I2S_2_TXD (io)
part F pins: 44 GP84_SD_0_CLK_FB (io), 58 GP78_SD_0_CLK (io), 60 !GP77_SD_0_CD# (io), 62 GP79_SD_0_CMD (io), 64 GP82_SD_0_DAT2 (io), 66 GP80_SD_0_DAT0 (io), 68 GP83_SD_0_DAT3 (io), 70 GP81_SD_0_DAT1 (io)
part G pins: 51 GP111_SPI_2_FS1 (io), 53 GP110_SPI_2_FS0 (io), 55 GP109_SPI_2_CLK (io), 57 GP115_SPI_2_TXD (io), 59 GP114_SPI_2_RXD (io)
part H pins: 46 GP131_UART_1_TX (io), 61 GP130_UART_1_RX (io), 63 GP129_UART_1_RTS (io), 65 GP128_UART_1_CTS (io)
part I pins: 22 GP134_UART_2_RX (io), 27 GP135_UART_2_TX (io)
part J pins: 3 USB_ID (io), 16 USB_DP (io), 18 USB_DN (io), 19 FAULT (io), 20 USB_VBUS (io), 21 PSW (io)

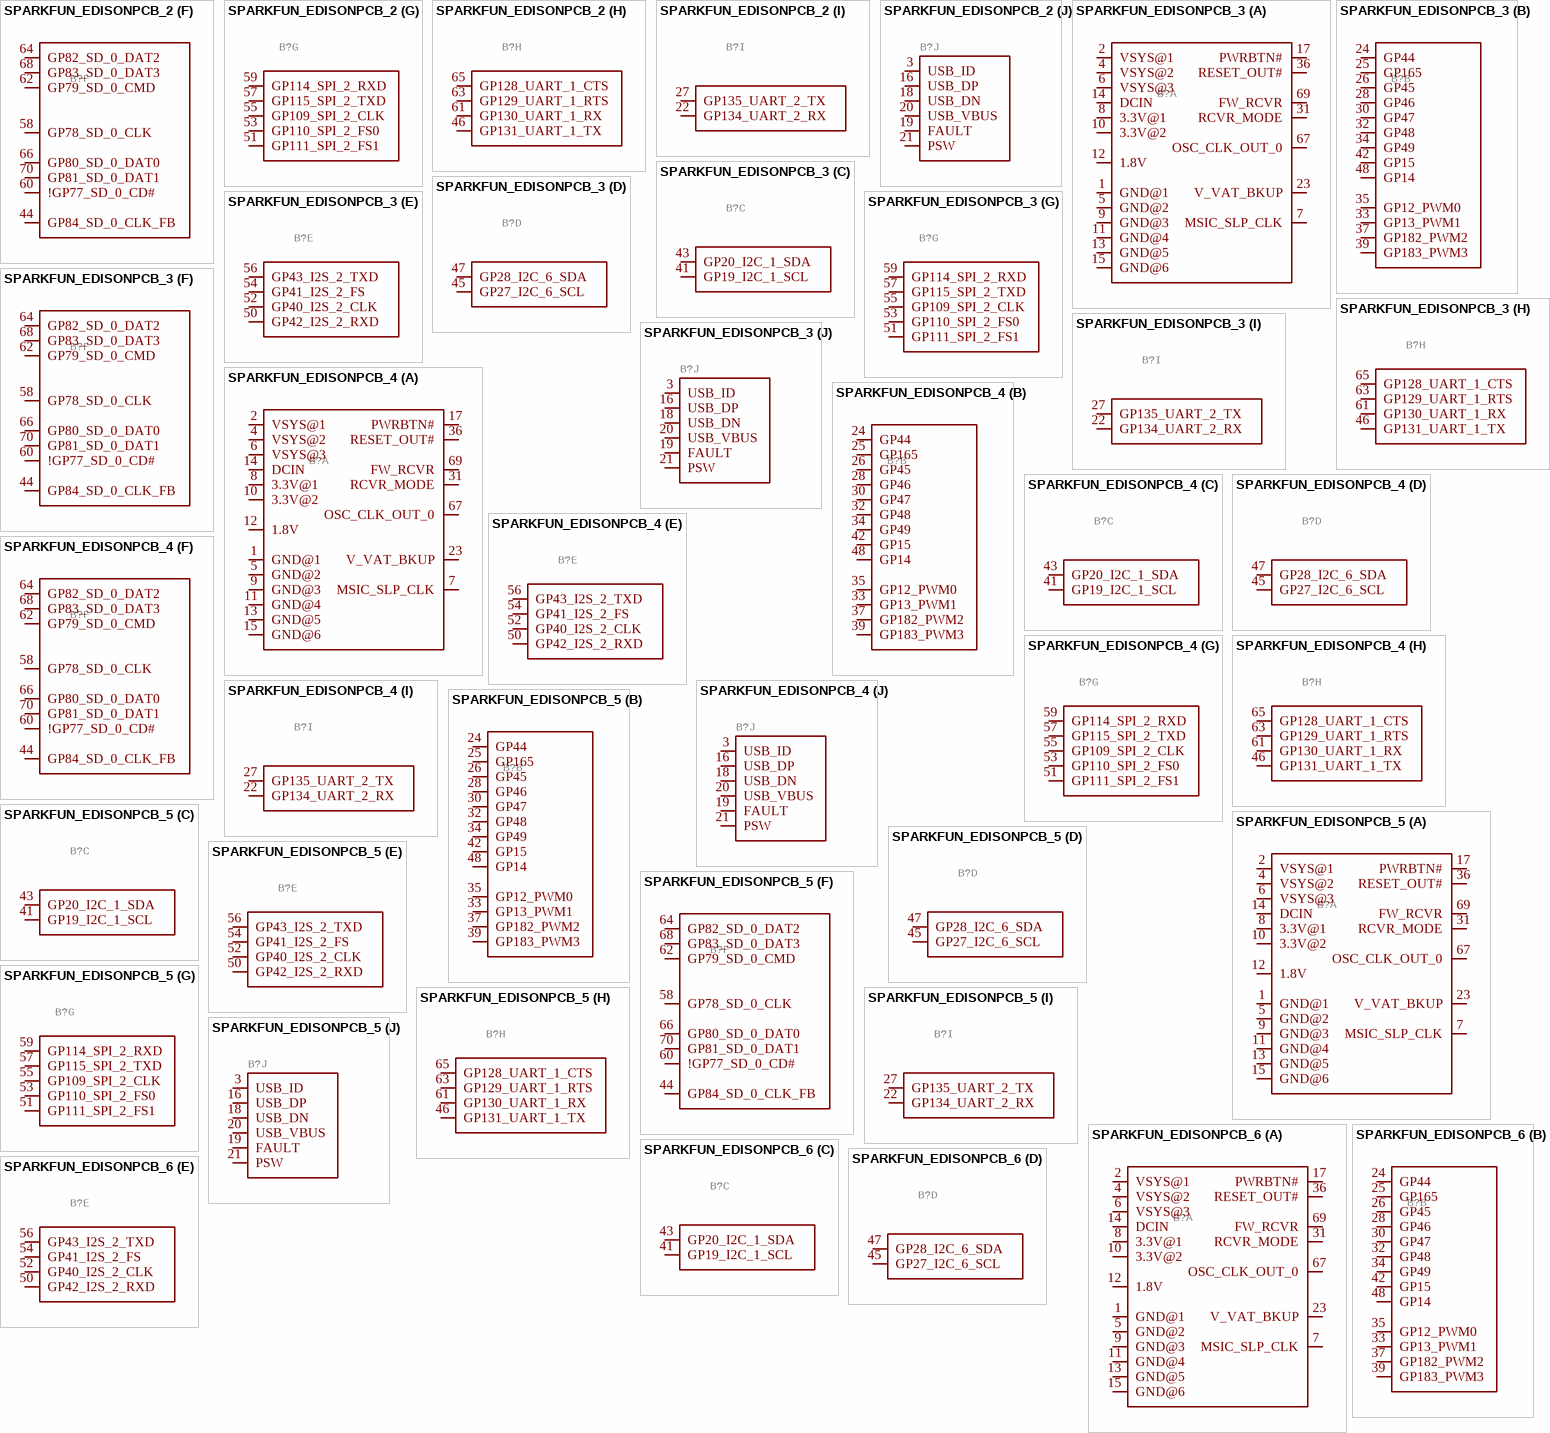
[diagram p9: symbols SPARKFUN_EDISONPCB_2 to SPARKFUN_EDISONPCB_6]

## SPARKFUN_EDISONPCB_2
designator B?, comment SparkFun Edison     The IntelÂ® Edison is an ultra small computing platform that will change the way you look at embedded electronics. Each Edison packs a huge amount of tech goodies into a tiny package while still providing the same robust strength of your go-to single board computer. Powered by the IntelÂ® Atomâ„¢ SoC dual-core CPU and including an integrated WiFi, Bluetooth LE, and a 70-pin connector to attach a veritable slew of shield-like â€œBlocksâ€ which can be stacked on top of each other.   This device includes footprints for the Edison module itself, as well as the basic board outline used for our Edison blocks.   SparkFun Products: Intel Edison  SparkFun Console Block  SparkFun GPIO Block  SparkFun Battery Block  SparkFun Base Block  SparkFun 9DOF Block  SparkFun OLED Block  SparkFun Dual H-Bridge Block  SparkFun microSD Block  SparkFun ADC Block  SparkFun I2C Block  SparkFun Arduino Block  SparkFun Power Block  SparkFun PWM Block  SparkFun Raspberry Pi Block  SparkFun UART Block  (value not drawn)
GateName_1: _BASIC; SymbolName_1: EDISON_CONNECTOR_BASE; GateName_2: _GPIO; SymbolName_2: EDISON_CONNECTOR_GPIO; GateName_3: _I2C_1; SymbolName_3: EDISON_CONNECTOR_I2C_1; GateName_4: _I2C_6; SymbolName_4: EDISON_CONNECTOR_I2C_6; GateName_5: _I2S; SymbolName_5: EDISON_CONNECTOR_I2S_2; GateName_6: _SD; SymbolName_6: EDISON_CONNECTOR_SD; GateName_7: _SPI; SymbolName_7: EDISON_CONNECTOR_SPI_2; GateName_8: _UART_1; SymbolName_8: EDISON_CONNECTOR_UART_1; GateName_9: _UART_2; SymbolName_9: EDISON_CONNECTOR_UART_2; GateName_10: _USB; SymbolName_10: EDISON_CONNECTOR_USB; DeviceName: PCB; DeviceSetName: SPARKFUN_EDISON; LibraryName: SparkFun-Boards; Package: SPARKFUN_EDISON_PCB
footprint SPARKFUN_EDISON_PCB
part A pins: 1 GND@1 (power), 2 VSYS@1 (power), 4 VSYS@2 (power), 5 GND@2 (power), 6 VSYS@3 (power), 7 MSIC_SLP_CLK (io), 8 3.3V@1 (power), 9 GND@3 (power), 10 3.3V@2 (power), 11 GND@4 (power), 12 1.8V (power), 13 GND@5 (power), 14 DCIN (power), 15 GND@6 (power), 17 PWRBTN# (io), 23 V_VAT_BKUP (power), 31 RCVR_MODE (io), 36 RESET_OUT# (io), 67 OSC_CLK_OUT_0 (io), 69 FW_RCVR (io)
part B pins: 24 GP44 (io), 25 GP165 (io), 26 GP45 (io), 28 GP46 (io), 30 GP47 (io), 32 GP48 (io), 33 GP13_PWM1 (io), 34 GP49 (io), 35 GP12_PWM0 (io), 37 GP182_PWM2 (io), 39 GP183_PWM3 (io), 42 GP15 (io), 48 GP14 (io)
part C pins: 41 GP19_I2C_1_SCL (io), 43 GP20_I2C_1_SDA (io)
part D pins: 45 GP27_I2C_6_SCL (io), 47 GP28_I2C_6_SDA (io)
part E pins: 50 GP42_I2S_2_RXD (io), 52 GP40_I2S_2_CLK (io), 54 GP41_I2S_2_FS (io), 56 GP43_I2S_2_TXD (io)
part F pins: 44 GP84_SD_0_CLK_FB (io), 58 GP78_SD_0_CLK (io), 60 !GP77_SD_0_CD# (io), 62 GP79_SD_0_CMD (io), 64 GP82_SD_0_DAT2 (io), 66 GP80_SD_0_DAT0 (io), 68 GP83_SD_0_DAT3 (io), 70 GP81_SD_0_DAT1 (io)
part G pins: 51 GP111_SPI_2_FS1 (io), 53 GP110_SPI_2_FS0 (io), 55 GP109_SPI_2_CLK (io), 57 GP115_SPI_2_TXD (io), 59 GP114_SPI_2_RXD (io)
part H pins: 46 GP131_UART_1_TX (io), 61 GP130_UART_1_RX (io), 63 GP129_UART_1_RTS (io), 65 GP128_UART_1_CTS (io)
part I pins: 22 GP134_UART_2_RX (io), 27 GP135_UART_2_TX (io)
part J pins: 3 USB_ID (io), 16 USB_DP (io), 18 USB_DN (io), 19 FAULT (io), 20 USB_VBUS (io), 21 PSW (io)

## SPARKFUN_EDISONPCB_3
designator B?, comment SparkFun Edison     The IntelÂ® Edison is an ultra small computing platform that will change the way you look at embedded electronics. Each Edison packs a huge amount of tech goodies into a tiny package while still providing the same robust strength of your go-to single board computer. Powered by the IntelÂ® Atomâ„¢ SoC dual-core CPU and including an integrated WiFi, Bluetooth LE, and a 70-pin connector to attach a veritable slew of shield-like â€œBlocksâ€ which can be stacked on top of each other.   This device includes footprints for the Edison module itself, as well as the basic board outline used for our Edison blocks.   SparkFun Products: Intel Edison  SparkFun Console Block  SparkFun GPIO Block  SparkFun Battery Block  SparkFun Base Block  SparkFun 9DOF Block  SparkFun OLED Block  SparkFun Dual H-Bridge Block  SparkFun microSD Block  SparkFun ADC Block  SparkFun I2C Block  SparkFun Arduino Block  SparkFun Power Block  SparkFun PWM Block  SparkFun Raspberry Pi Block  SparkFun UART Block  (value not drawn)
GateName_1: _BASIC; SymbolName_1: EDISON_CONNECTOR_BASE; GateName_2: _GPIO; SymbolName_2: EDISON_CONNECTOR_GPIO; GateName_3: _I2C_1; SymbolName_3: EDISON_CONNECTOR_I2C_1; GateName_4: _I2C_6; SymbolName_4: EDISON_CONNECTOR_I2C_6; GateName_5: _I2S; SymbolName_5: EDISON_CONNECTOR_I2S_2; GateName_6: _SD; SymbolName_6: EDISON_CONNECTOR_SD; GateName_7: _SPI; SymbolName_7: EDISON_CONNECTOR_SPI_2; GateName_8: _UART_1; SymbolName_8: EDISON_CONNECTOR_UART_1; GateName_9: _UART_2; SymbolName_9: EDISON_CONNECTOR_UART_2; GateName_10: _USB; SymbolName_10: EDISON_CONNECTOR_USB; DeviceName: PCB; DeviceSetName: SPARKFUN_EDISON; LibraryName: SparkFun-Boards; Package: SPARKFUN_EDISON_PCB
footprint SPARKFUN_EDISON_PCB
part A pins: 1 GND@1 (power), 2 VSYS@1 (power), 4 VSYS@2 (power), 5 GND@2 (power), 6 VSYS@3 (power), 7 MSIC_SLP_CLK (io), 8 3.3V@1 (power), 9 GND@3 (power), 10 3.3V@2 (power), 11 GND@4 (power), 12 1.8V (power), 13 GND@5 (power), 14 DCIN (power), 15 GND@6 (power), 17 PWRBTN# (io), 23 V_VAT_BKUP (power), 31 RCVR_MODE (io), 36 RESET_OUT# (io), 67 OSC_CLK_OUT_0 (io), 69 FW_RCVR (io)
part B pins: 24 GP44 (io), 25 GP165 (io), 26 GP45 (io), 28 GP46 (io), 30 GP47 (io), 32 GP48 (io), 33 GP13_PWM1 (io), 34 GP49 (io), 35 GP12_PWM0 (io), 37 GP182_PWM2 (io), 39 GP183_PWM3 (io), 42 GP15 (io), 48 GP14 (io)
part C pins: 41 GP19_I2C_1_SCL (io), 43 GP20_I2C_1_SDA (io)
part D pins: 45 GP27_I2C_6_SCL (io), 47 GP28_I2C_6_SDA (io)
part E pins: 50 GP42_I2S_2_RXD (io), 52 GP40_I2S_2_CLK (io), 54 GP41_I2S_2_FS (io), 56 GP43_I2S_2_TXD (io)
part F pins: 44 GP84_SD_0_CLK_FB (io), 58 GP78_SD_0_CLK (io), 60 !GP77_SD_0_CD# (io), 62 GP79_SD_0_CMD (io), 64 GP82_SD_0_DAT2 (io), 66 GP80_SD_0_DAT0 (io), 68 GP83_SD_0_DAT3 (io), 70 GP81_SD_0_DAT1 (io)
part G pins: 51 GP111_SPI_2_FS1 (io), 53 GP110_SPI_2_FS0 (io), 55 GP109_SPI_2_CLK (io), 57 GP115_SPI_2_TXD (io), 59 GP114_SPI_2_RXD (io)
part H pins: 46 GP131_UART_1_TX (io), 61 GP130_UART_1_RX (io), 63 GP129_UART_1_RTS (io), 65 GP128_UART_1_CTS (io)
part I pins: 22 GP134_UART_2_RX (io), 27 GP135_UART_2_TX (io)
part J pins: 3 USB_ID (io), 16 USB_DP (io), 18 USB_DN (io), 19 FAULT (io), 20 USB_VBUS (io), 21 PSW (io)

## SPARKFUN_EDISONPCB_4
designator B?, comment SparkFun Edison     The IntelÂ® Edison is an ultra small computing platform that will change the way you look at embedded electronics. Each Edison packs a huge amount of tech goodies into a tiny package while still providing the same robust strength of your go-to single board computer. Powered by the IntelÂ® Atomâ„¢ SoC dual-core CPU and including an integrated WiFi, Bluetooth LE, and a 70-pin connector to attach a veritable slew of shield-like â€œBlocksâ€ which can be stacked on top of each other.   This device includes footprints for the Edison module itself, as well as the basic board outline used for our Edison blocks.   SparkFun Products: Intel Edison  SparkFun Console Block  SparkFun GPIO Block  SparkFun Battery Block  SparkFun Base Block  SparkFun 9DOF Block  SparkFun OLED Block  SparkFun Dual H-Bridge Block  SparkFun microSD Block  SparkFun ADC Block  SparkFun I2C Block  SparkFun Arduino Block  SparkFun Power Block  SparkFun PWM Block  SparkFun Raspberry Pi Block  SparkFun UART Block  (value not drawn)
GateName_1: _BASIC; SymbolName_1: EDISON_CONNECTOR_BASE; GateName_2: _GPIO; SymbolName_2: EDISON_CONNECTOR_GPIO; GateName_3: _I2C_1; SymbolName_3: EDISON_CONNECTOR_I2C_1; GateName_4: _I2C_6; SymbolName_4: EDISON_CONNECTOR_I2C_6; GateName_5: _I2S; SymbolName_5: EDISON_CONNECTOR_I2S_2; GateName_6: _SD; SymbolName_6: EDISON_CONNECTOR_SD; GateName_7: _SPI; SymbolName_7: EDISON_CONNECTOR_SPI_2; GateName_8: _UART_1; SymbolName_8: EDISON_CONNECTOR_UART_1; GateName_9: _UART_2; SymbolName_9: EDISON_CONNECTOR_UART_2; GateName_10: _USB; SymbolName_10: EDISON_CONNECTOR_USB; DeviceName: PCB; DeviceSetName: SPARKFUN_EDISON; LibraryName: SparkFun-Boards; Package: SPARKFUN_EDISON_PCB
footprint SPARKFUN_EDISON_PCB
part A pins: 1 GND@1 (power), 2 VSYS@1 (power), 4 VSYS@2 (power), 5 GND@2 (power), 6 VSYS@3 (power), 7 MSIC_SLP_CLK (io), 8 3.3V@1 (power), 9 GND@3 (power), 10 3.3V@2 (power), 11 GND@4 (power), 12 1.8V (power), 13 GND@5 (power), 14 DCIN (power), 15 GND@6 (power), 17 PWRBTN# (io), 23 V_VAT_BKUP (power), 31 RCVR_MODE (io), 36 RESET_OUT# (io), 67 OSC_CLK_OUT_0 (io), 69 FW_RCVR (io)
part B pins: 24 GP44 (io), 25 GP165 (io), 26 GP45 (io), 28 GP46 (io), 30 GP47 (io), 32 GP48 (io), 33 GP13_PWM1 (io), 34 GP49 (io), 35 GP12_PWM0 (io), 37 GP182_PWM2 (io), 39 GP183_PWM3 (io), 42 GP15 (io), 48 GP14 (io)
part C pins: 41 GP19_I2C_1_SCL (io), 43 GP20_I2C_1_SDA (io)
part D pins: 45 GP27_I2C_6_SCL (io), 47 GP28_I2C_6_SDA (io)
part E pins: 50 GP42_I2S_2_RXD (io), 52 GP40_I2S_2_CLK (io), 54 GP41_I2S_2_FS (io), 56 GP43_I2S_2_TXD (io)
part F pins: 44 GP84_SD_0_CLK_FB (io), 58 GP78_SD_0_CLK (io), 60 !GP77_SD_0_CD# (io), 62 GP79_SD_0_CMD (io), 64 GP82_SD_0_DAT2 (io), 66 GP80_SD_0_DAT0 (io), 68 GP83_SD_0_DAT3 (io), 70 GP81_SD_0_DAT1 (io)
part G pins: 51 GP111_SPI_2_FS1 (io), 53 GP110_SPI_2_FS0 (io), 55 GP109_SPI_2_CLK (io), 57 GP115_SPI_2_TXD (io), 59 GP114_SPI_2_RXD (io)
part H pins: 46 GP131_UART_1_TX (io), 61 GP130_UART_1_RX (io), 63 GP129_UART_1_RTS (io), 65 GP128_UART_1_CTS (io)
part I pins: 22 GP134_UART_2_RX (io), 27 GP135_UART_2_TX (io)
part J pins: 3 USB_ID (io), 16 USB_DP (io), 18 USB_DN (io), 19 FAULT (io), 20 USB_VBUS (io), 21 PSW (io)

## SPARKFUN_EDISONPCB_5
designator B?, comment SparkFun Edison     The IntelÂ® Edison is an ultra small computing platform that will change the way you look at embedded electronics. Each Edison packs a huge amount of tech goodies into a tiny package while still providing the same robust strength of your go-to single board computer. Powered by the IntelÂ® Atomâ„¢ SoC dual-core CPU and including an integrated WiFi, Bluetooth LE, and a 70-pin connector to attach a veritable slew of shield-like â€œBlocksâ€ which can be stacked on top of each other.   This device includes footprints for the Edison module itself, as well as the basic board outline used for our Edison blocks.   SparkFun Products: Intel Edison  SparkFun Console Block  SparkFun GPIO Block  SparkFun Battery Block  SparkFun Base Block  SparkFun 9DOF Block  SparkFun OLED Block  SparkFun Dual H-Bridge Block  SparkFun microSD Block  SparkFun ADC Block  SparkFun I2C Block  SparkFun Arduino Block  SparkFun Power Block  SparkFun PWM Block  SparkFun Raspberry Pi Block  SparkFun UART Block  (value not drawn)
GateName_1: _BASIC; SymbolName_1: EDISON_CONNECTOR_BASE; GateName_2: _GPIO; SymbolName_2: EDISON_CONNECTOR_GPIO; GateName_3: _I2C_1; SymbolName_3: EDISON_CONNECTOR_I2C_1; GateName_4: _I2C_6; SymbolName_4: EDISON_CONNECTOR_I2C_6; GateName_5: _I2S; SymbolName_5: EDISON_CONNECTOR_I2S_2; GateName_6: _SD; SymbolName_6: EDISON_CONNECTOR_SD; GateName_7: _SPI; SymbolName_7: EDISON_CONNECTOR_SPI_2; GateName_8: _UART_1; SymbolName_8: EDISON_CONNECTOR_UART_1; GateName_9: _UART_2; SymbolName_9: EDISON_CONNECTOR_UART_2; GateName_10: _USB; SymbolName_10: EDISON_CONNECTOR_USB; DeviceName: PCB; DeviceSetName: SPARKFUN_EDISON; LibraryName: SparkFun-Boards; Package: SPARKFUN_EDISON_PCB
footprint SPARKFUN_EDISON_PCB
part A pins: 1 GND@1 (power), 2 VSYS@1 (power), 4 VSYS@2 (power), 5 GND@2 (power), 6 VSYS@3 (power), 7 MSIC_SLP_CLK (io), 8 3.3V@1 (power), 9 GND@3 (power), 10 3.3V@2 (power), 11 GND@4 (power), 12 1.8V (power), 13 GND@5 (power), 14 DCIN (power), 15 GND@6 (power), 17 PWRBTN# (io), 23 V_VAT_BKUP (power), 31 RCVR_MODE (io), 36 RESET_OUT# (io), 67 OSC_CLK_OUT_0 (io), 69 FW_RCVR (io)
part B pins: 24 GP44 (io), 25 GP165 (io), 26 GP45 (io), 28 GP46 (io), 30 GP47 (io), 32 GP48 (io), 33 GP13_PWM1 (io), 34 GP49 (io), 35 GP12_PWM0 (io), 37 GP182_PWM2 (io), 39 GP183_PWM3 (io), 42 GP15 (io), 48 GP14 (io)
part C pins: 41 GP19_I2C_1_SCL (io), 43 GP20_I2C_1_SDA (io)
part D pins: 45 GP27_I2C_6_SCL (io), 47 GP28_I2C_6_SDA (io)
part E pins: 50 GP42_I2S_2_RXD (io), 52 GP40_I2S_2_CLK (io), 54 GP41_I2S_2_FS (io), 56 GP43_I2S_2_TXD (io)
part F pins: 44 GP84_SD_0_CLK_FB (io), 58 GP78_SD_0_CLK (io), 60 !GP77_SD_0_CD# (io), 62 GP79_SD_0_CMD (io), 64 GP82_SD_0_DAT2 (io), 66 GP80_SD_0_DAT0 (io), 68 GP83_SD_0_DAT3 (io), 70 GP81_SD_0_DAT1 (io)
part G pins: 51 GP111_SPI_2_FS1 (io), 53 GP110_SPI_2_FS0 (io), 55 GP109_SPI_2_CLK (io), 57 GP115_SPI_2_TXD (io), 59 GP114_SPI_2_RXD (io)
part H pins: 46 GP131_UART_1_TX (io), 61 GP130_UART_1_RX (io), 63 GP129_UART_1_RTS (io), 65 GP128_UART_1_CTS (io)
part I pins: 22 GP134_UART_2_RX (io), 27 GP135_UART_2_TX (io)
part J pins: 3 USB_ID (io), 16 USB_DP (io), 18 USB_DN (io), 19 FAULT (io), 20 USB_VBUS (io), 21 PSW (io)

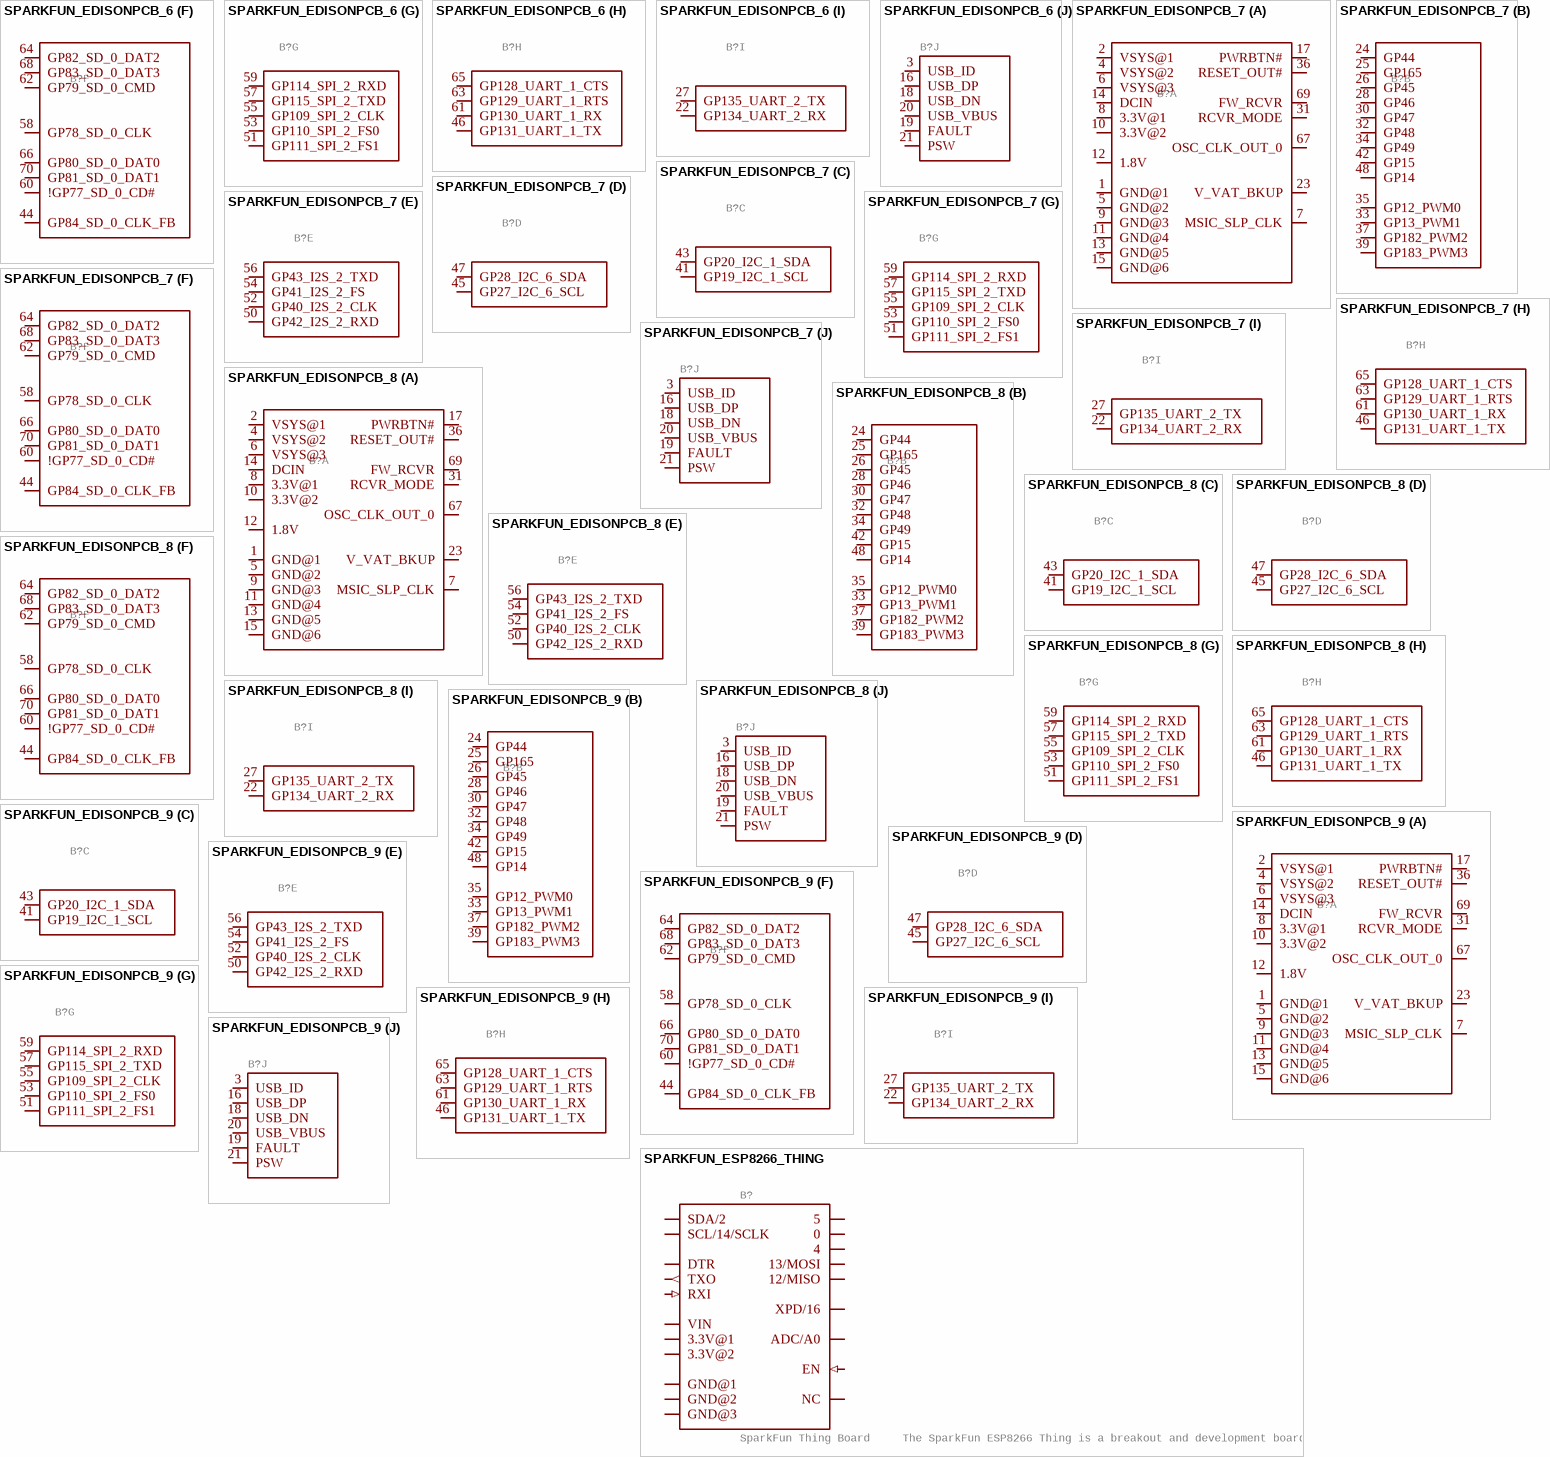
[diagram p10: symbols SPARKFUN_EDISONPCB_6 to SPARKFUN_ESP8266_THING]